# Altium schematic symbol library processor_sitara.SchLib: 3 symbols
Pins are listed as number, name and electrical type; pins without a type are passive.

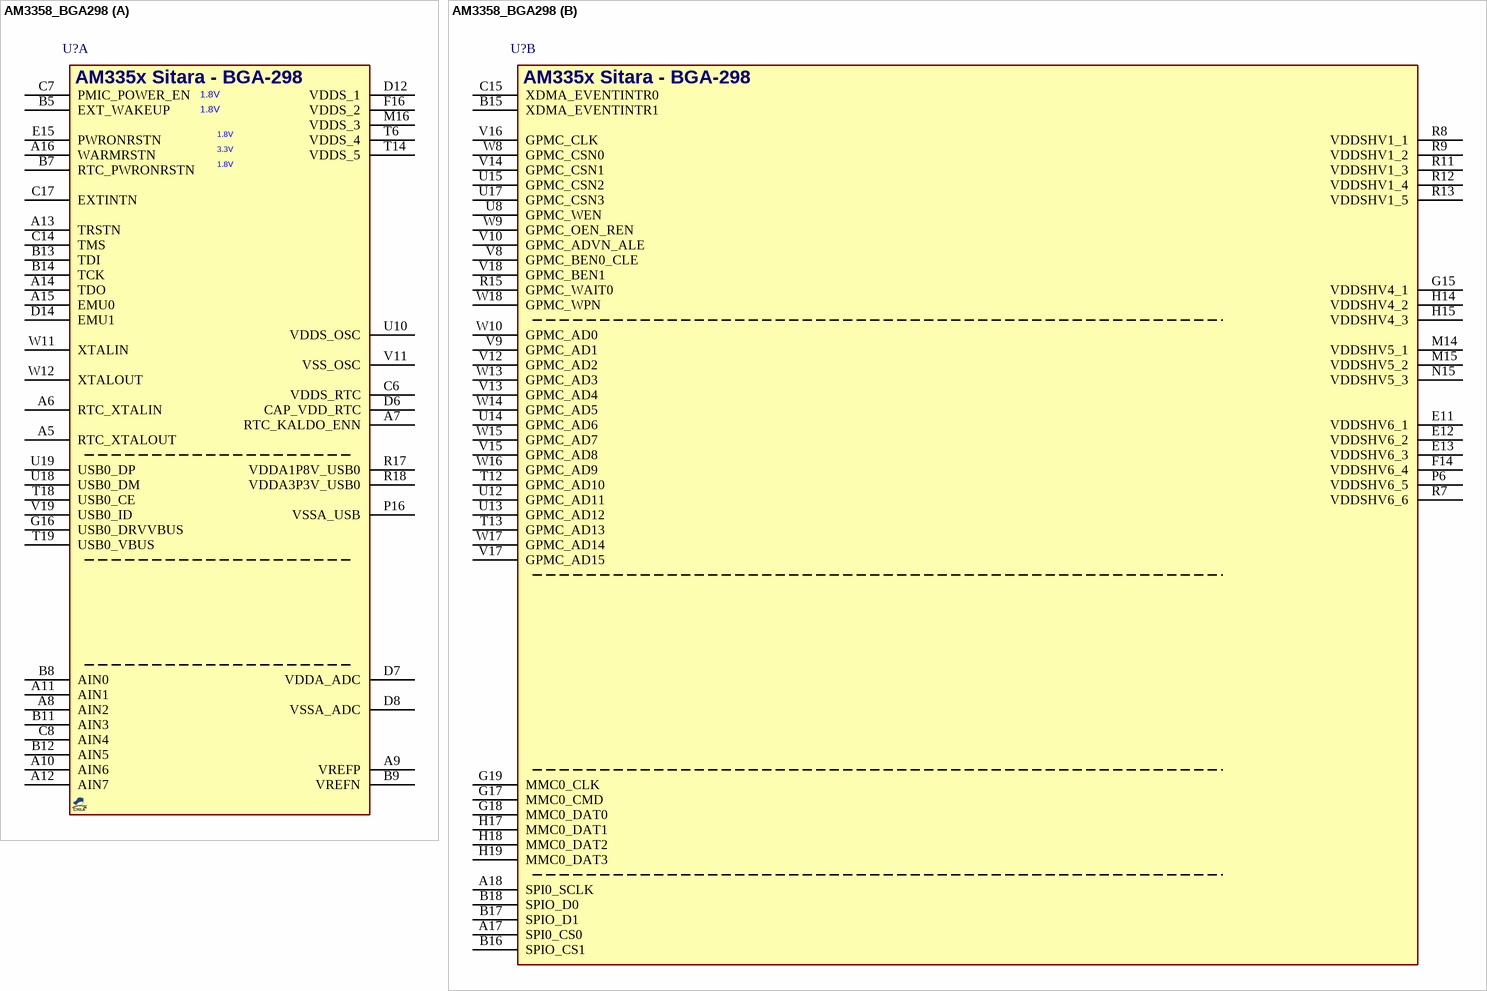
[diagram p0: symbol AM3358_BGA298]

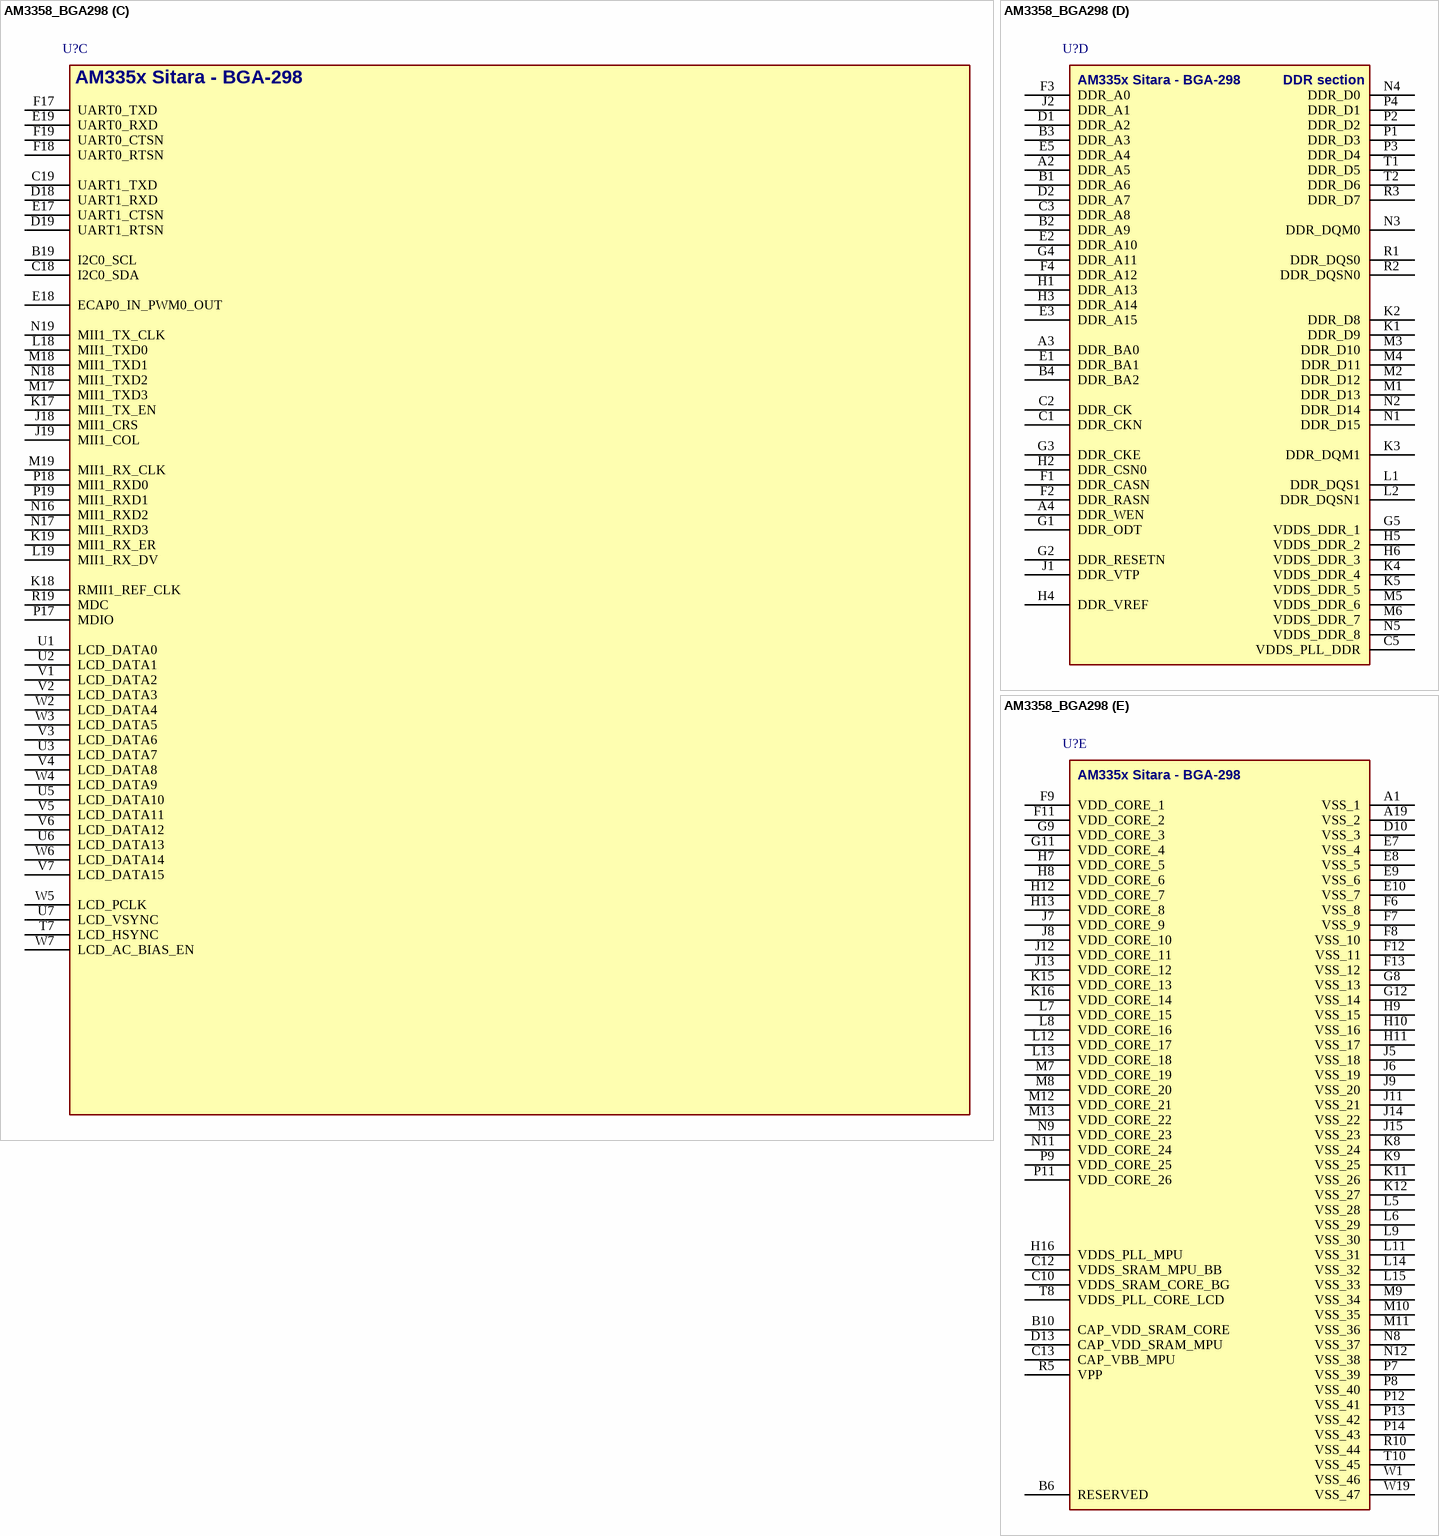
[diagram p1: symbol AM3358_BGA298]

## AM3358_BGA298
designator U?, comment AM3358  (value not drawn)
IC, Cortex A8 Processor, SITARA AM335x; MANF: Texas Instruments; MANF_P#: AM3358BZCE60; VALUE: AM3358
footprint BGA65_298_13X13 (BGA-298 ZCE, 0.65mm pitch, 13x13x1.3mm)
part A pins: A5 RTC_XTALOUT, A6 RTC_XTALIN, A7 RTC_KALDO_ENN, A8 AIN2, A9 VREFP, A10 AIN6, A11 AIN1, A12 AIN7, A13 TRSTN, A14 TDO, A15 EMU0, A16 WARMRSTN, B5 EXT_WAKEUP, B7 RTC_PWRONRSTN, B8 AIN0, B9 VREFN, B11 AIN3, B12 AIN5, B13 TDI, B14 TCK, C6 VDDS_RTC, C7 PMIC_POWER_EN, C8 AIN4, C14 TMS, C17 EXTINTN, D6 CAP_VDD_RTC, D7 VDDA_ADC, D8 VSSA_ADC, D12 VDDS_1, D14 EMU1, E15 PWRONRSTN, F16 VDDS_2, G16 USB0_DRVVBUS, M16 VDDS_3, P16 VSSA_USB, R17 VDDA1P8V_USB0, R18 VDDA3P3V_USB0, T6 VDDS_4, T14 VDDS_5, T18 USB0_CE, T19 USB0_VBUS, U10 VDDS_OSC, U18 USB0_DM, U19 USB0_DP, V11 VSS_OSC, V19 USB0_ID, W11 XTALIN, W12 XTALOUT
part B pins: A17 SPI0_CS0, A18 SPI0_SCLK, B15 XDMA_EVENTINTR1, B16 SPIO_CS1, B17 SPIO_D1, B18 SPIO_D0, C15 XDMA_EVENTINTR0, E11 VDDSHV6_1, E12 VDDSHV6_2, E13 VDDSHV6_3, F14 VDDSHV6_4, G15 VDDSHV4_1, G17 MMC0_CMD, G18 MMC0_DAT0, G19 MMC0_CLK, H14 VDDSHV4_2, H15 VDDSHV4_3, H17 MMC0_DAT1, H18 MMC0_DAT2, H19 MMC0_DAT3, M14 VDDSHV5_1, M15 VDDSHV5_2, N15 VDDSHV5_3, P6 VDDSHV6_5, R7 VDDSHV6_6, R8 VDDSHV1_1, R9 VDDSHV1_2, R11 VDDSHV1_3, R12 VDDSHV1_4, R13 VDDSHV1_5, R15 GPMC_WAIT0, T12 GPMC_AD10, T13 GPMC_AD13, U8 GPMC_WEN, U12 GPMC_AD11, U13 GPMC_AD12, U14 GPMC_AD6, U15 GPMC_CSN2, U17 GPMC_CSN3, V8 GPMC_BEN0_CLE, V9 GPMC_AD1, V10 GPMC_ADVN_ALE, V12 GPMC_AD2, V13 GPMC_AD4, V14 GPMC_CSN1, V15 GPMC_AD8, V16 GPMC_CLK, V17 GPMC_AD15, V18 GPMC_BEN1, W8 GPMC_CSN0, W9 GPMC_OEN_REN, W10 GPMC_AD0, W13 GPMC_AD3, W14 GPMC_AD5, W15 GPMC_AD7, W16 GPMC_AD9, W17 GPMC_AD14, W18 GPMC_WPN
part C pins: B19 I2C0_SCL, C18 I2C0_SDA, C19 UART1_TXD, D18 UART1_RXD, D19 UART1_RTSN, E17 UART1_CTSN, E18 ECAP0_IN_PWM0_OUT, E19 UART0_RXD, F17 UART0_TXD, F18 UART0_RTSN, F19 UART0_CTSN, J18 MII1_CRS, J19 MII1_COL, K17 MII1_TX_EN, K18 RMII1_REF_CLK, K19 MII1_RX_ER, L18 MII1_TXD0, L19 MII1_RX_DV, M17 MII1_TXD3, M18 MII1_TXD1, M19 MII1_RX_CLK, N16 MII1_RXD2, N17 MII1_RXD3, N18 MII1_TXD2, N19 MII1_TX_CLK, P17 MDIO, P18 MII1_RXD0, P19 MII1_RXD1, R19 MDC, T7 LCD_HSYNC, U1 LCD_DATA0, U2 LCD_DATA1, U3 LCD_DATA7, U5 LCD_DATA10, U6 LCD_DATA13, U7 LCD_VSYNC, V1 LCD_DATA2, V2 LCD_DATA3, V3 LCD_DATA6, V4 LCD_DATA8, V5 LCD_DATA11, V6 LCD_DATA12, V7 LCD_DATA15, W2 LCD_DATA4, W3 LCD_DATA5, W4 LCD_DATA9, W5 LCD_PCLK, W6 LCD_DATA14, W7 LCD_AC_BIAS_EN
part D pins: A2 DDR_A5, A3 DDR_BA0, A4 DDR_WEN, B1 DDR_A6, B2 DDR_A9, B3 DDR_A3, B4 DDR_BA2, C1 DDR_CKN, C2 DDR_CK, C3 DDR_A8, C5 VDDS_PLL_DDR, D1 DDR_A2, D2 DDR_A7, E1 DDR_BA1, E2 DDR_A10, E3 DDR_A15, E5 DDR_A4, F1 DDR_CASN, F2 DDR_RASN, F3 DDR_A0, F4 DDR_A12, G1 DDR_ODT, G2 DDR_RESETN, G3 DDR_CKE, G4 DDR_A11, G5 VDDS_DDR_1, H1 DDR_A13, H2 DDR_CSN0, H3 DDR_A14, H4 DDR_VREF, H5 VDDS_DDR_2, H6 VDDS_DDR_3, J1 DDR_VTP, J2 DDR_A1, K1 DDR_D9, K2 DDR_D8, K3 DDR_DQM1, K4 VDDS_DDR_4, K5 VDDS_DDR_5, L1 DDR_DQS1, L2 DDR_DQSN1, M1 DDR_D13, M2 DDR_D12, M3 DDR_D10, M4 DDR_D11, M5 VDDS_DDR_6, M6 VDDS_DDR_7, N1 DDR_D15, N2 DDR_D14, N3 DDR_DQM0, N4 DDR_D0, N5 VDDS_DDR_8, P1 DDR_D3, P2 DDR_D2, P3 DDR_D4, P4 DDR_D1, R1 DDR_DQS0, R2 DDR_DQSN0, R3 DDR_D7, T1 DDR_D5, T2 DDR_D6
part E pins: A1 VSS_1, A19 VSS_2, B6 RESERVED, B10 CAP_VDD_SRAM_CORE, C10 VDDS_SRAM_CORE_BG, C12 VDDS_SRAM_MPU_BB, C13 CAP_VBB_MPU, D10 VSS_3, D13 CAP_VDD_SRAM_MPU, E7 VSS_4, E8 VSS_5, E9 VSS_6, E10 VSS_7, F6 VSS_8, F7 VSS_9, F8 VSS_10, F9 VDD_CORE_1, F11 VDD_CORE_2, F12 VSS_11, F13 VSS_12, G8 VSS_13, G9 VDD_CORE_3, G11 VDD_CORE_4, G12 VSS_14, H7 VDD_CORE_5, H8 VDD_CORE_6, H9 VSS_15, H10 VSS_16, H11 VSS_17, H12 VDD_CORE_7, H13 VDD_CORE_8, H16 VDDS_PLL_MPU, J5 VSS_18, J6 VSS_19, J7 VDD_CORE_9, J8 VDD_CORE_10, J9 VSS_20, J11 VSS_21, J12 VDD_CORE_11, J13 VDD_CORE_12, J14 VSS_22, J15 VSS_23, K8 VSS_24, K9 VSS_25, K11 VSS_26, K12 VSS_27, K15 VDD_CORE_13, K16 VDD_CORE_14, L5 VSS_28, L6 VSS_29, L7 VDD_CORE_15, L8 VDD_CORE_16, L9 VSS_30, L11 VSS_31, L12 VDD_CORE_17, L13 VDD_CORE_18, L14 VSS_32, L15 VSS_33, M7 VDD_CORE_19, M8 VDD_CORE_20, M9 VSS_34, M10 VSS_35, M11 VSS_36, M12 VDD_CORE_21, M13 VDD_CORE_22, N8 VSS_37, N9 VDD_CORE_23, N11 VDD_CORE_24, N12 VSS_38, P7 VSS_39, P8 VSS_40, P9 VDD_CORE_25, P11 VDD_CORE_26, P12 VSS_41, P13 VSS_42, P14 VSS_43, R5 VPP, R10 VSS_44, T8 VDDS_PLL_CORE_LCD, T10 VSS_45, W1 VSS_46, W19 VSS_47
part A text: AM335x Sitara - BGA-298; 1.8V; 3.3V
part B text: AM335x Sitara - BGA-298
part C text: AM335x Sitara - BGA-298
part D text: AM335x Sitara - BGA-298; DDR section
part E text: AM335x Sitara - BGA-298

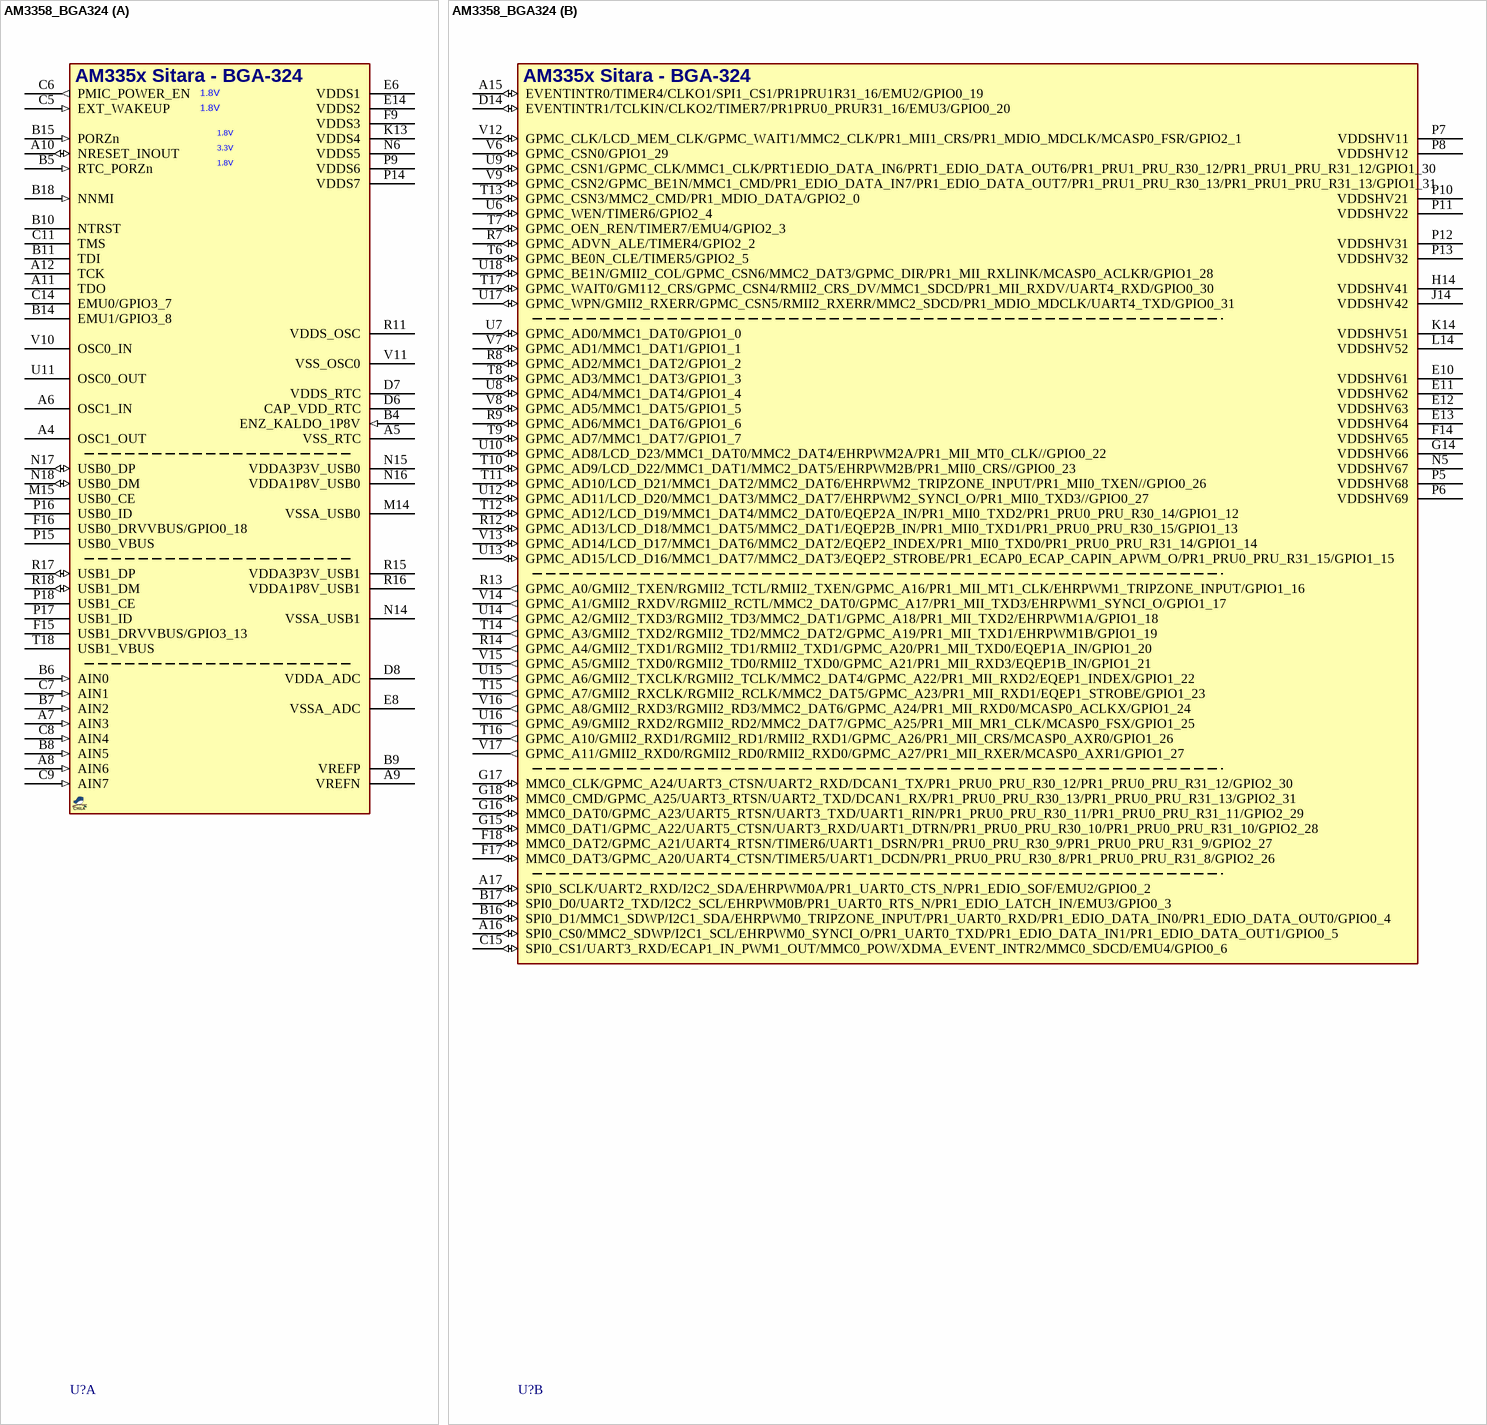
[diagram p2: symbol AM3358_BGA324]

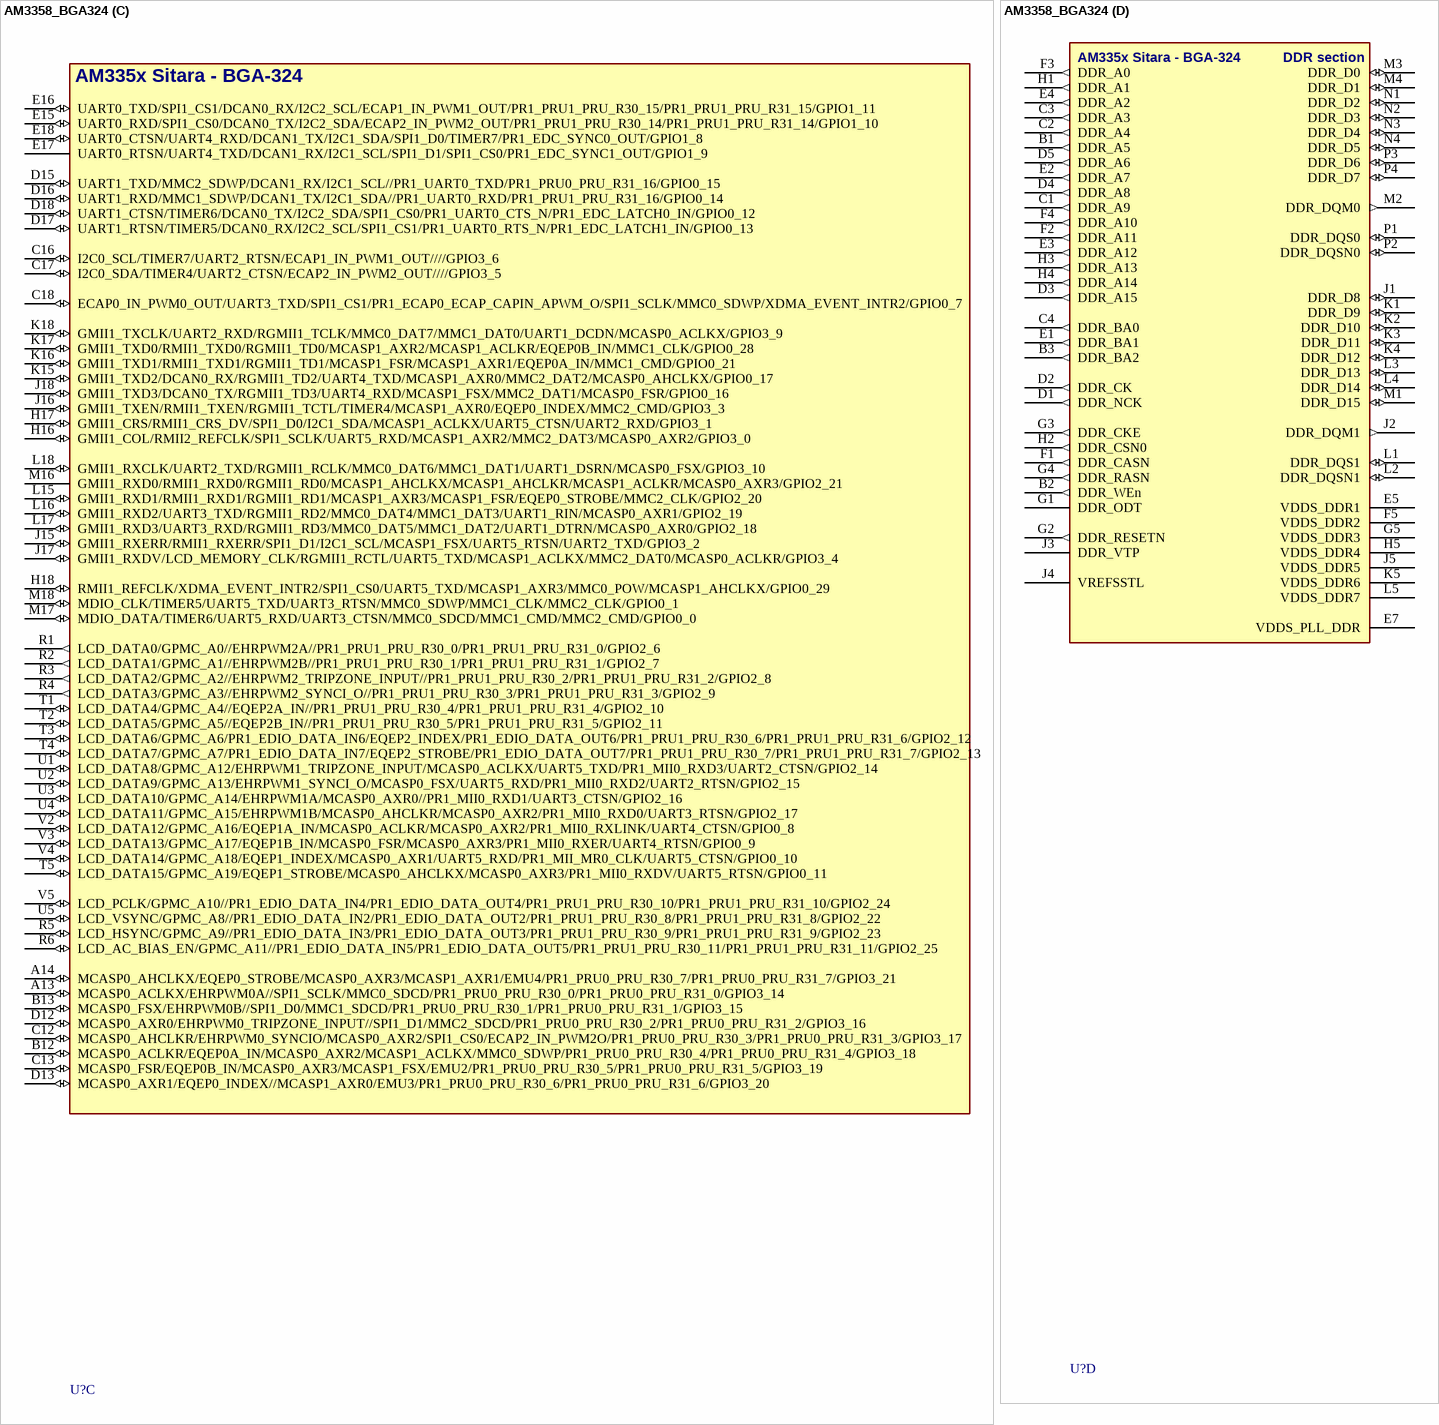
[diagram p3: symbol AM3358_BGA324]

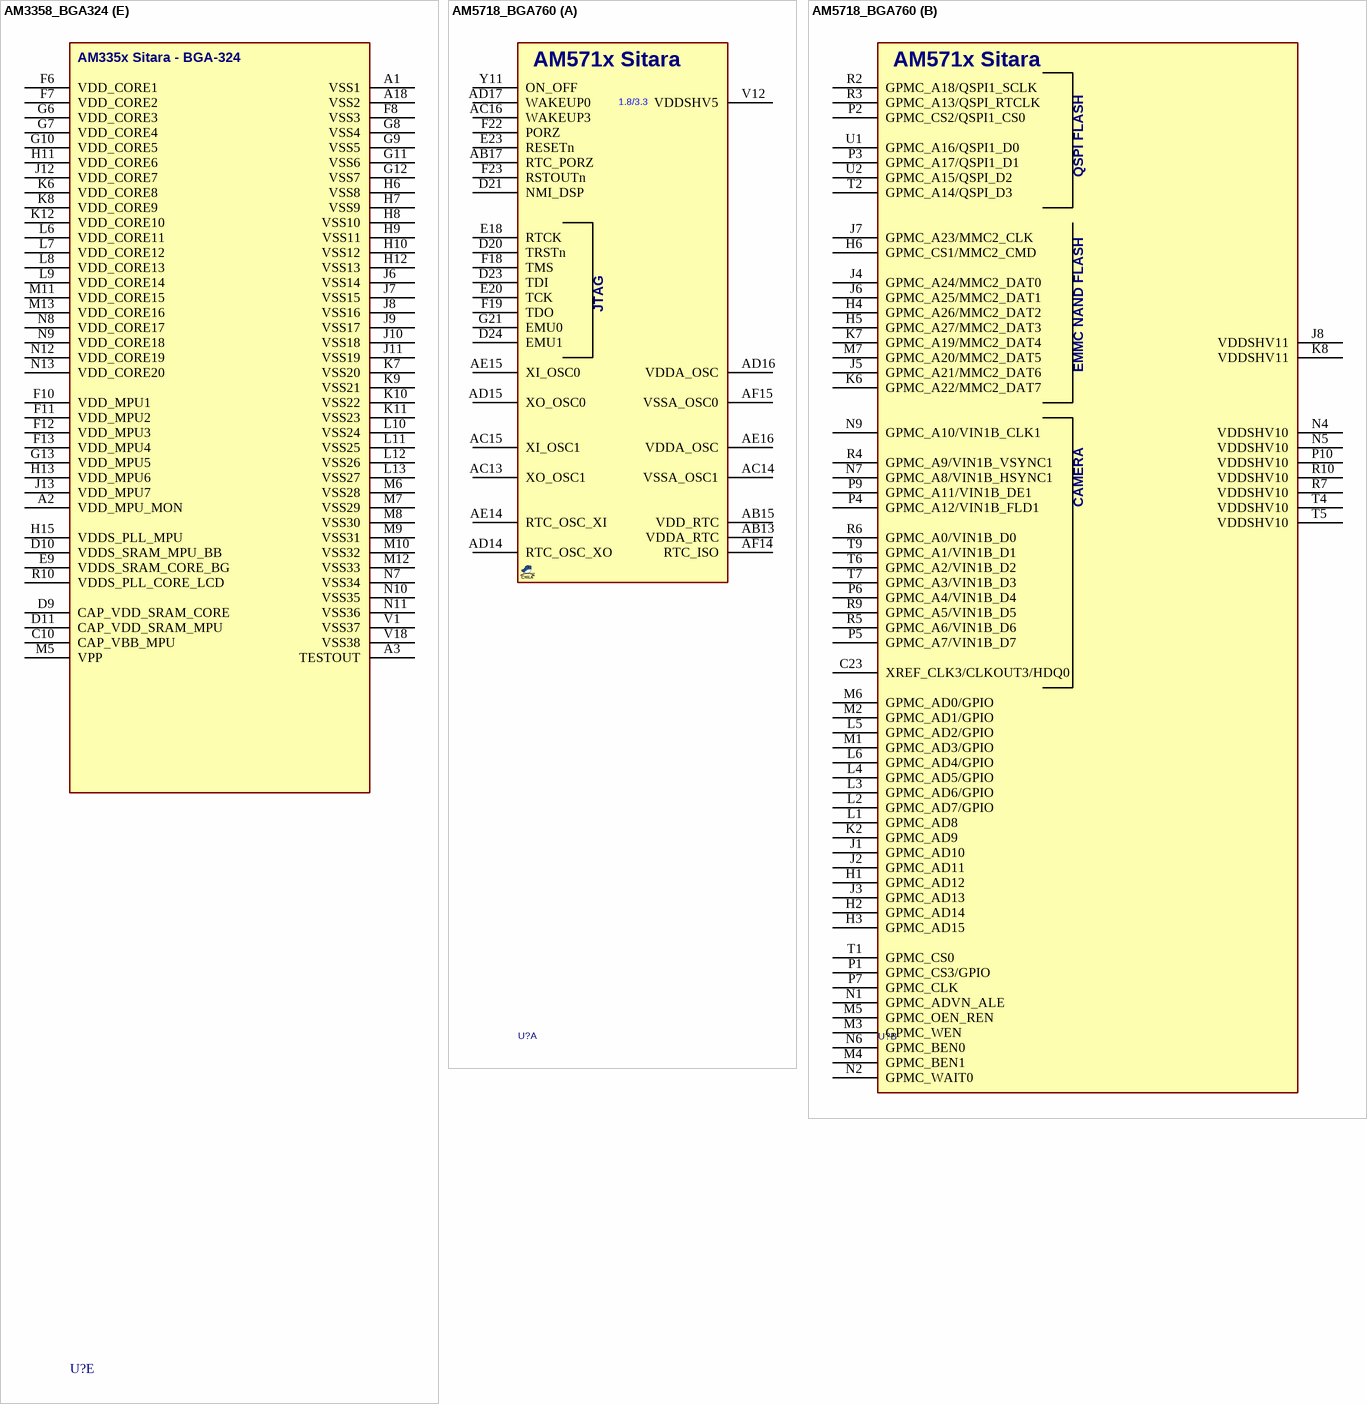
[diagram p4: symbols AM3358_BGA324 to AM5718_BGA760]

## AM3358_BGA324
designator U?, comment AM3358  (value not drawn)
IC, Cortex A8 Processor, SITARA AM335x FBGA ZCZ; MANF: Texas Instruments; MANF_P#: AM3358BZCZA100; PARAM: 1GHz; PRICE: 20$; VALUE: AM3358
footprint BGA80_324_S15 (BGA, 324-Leads, CSG324, Body 15x15mm, Pitch 0.8mm, AM33XX)
part A pins: A4 OSC1_OUT, A5 VSS_RTC (power), A6 OSC1_IN, A7 AIN3 (in), A8 AIN6 (in), A9 VREFN, A10 NRESET_INOUT (io), A11 TDO, A12 TCK, B4 ENZ_KALDO_1P8V (in), B5 RTC_PORZn (in), B6 AIN0 (in), B7 AIN2 (in), B8 AIN5 (in), B9 VREFP, B10 NTRST, B11 TDI, B14 EMU1/GPIO3_8, B15 PORZn (in), B18 NNMI (in), C5 EXT_WAKEUP (in), C6 PMIC_POWER_EN (out), C7 AIN1 (in), C8 AIN4 (in), C9 AIN7 (in), C11 TMS, C14 EMU0/GPIO3_7, D6 CAP_VDD_RTC (power), D7 VDDS_RTC (power), D8 VDDA_ADC (power), E6 VDDS1 (power), E8 VSSA_ADC (power), E14 VDDS2 (power), F9 VDDS3 (power), F15 USB1_DRVVBUS/GPIO3_13, F16 USB0_DRVVBUS/GPIO0_18, K13 VDDS4 (power), M14 VSSA_USB0 (power), M15 USB0_CE, N6 VDDS5 (power), N14 VSSA_USB1 (power), N15 VDDA3P3V_USB0 (power), N16 VDDA1P8V_USB0 (power), N17 USB0_DP (io), N18 USB0_DM (io), P9 VDDS6 (power), P14 VDDS7 (power), P15 USB0_VBUS, P16 USB0_ID, P17 USB1_ID, P18 USB1_CE, R11 VDDS_OSC (power), R15 VDDA3P3V_USB1 (power), R16 VDDA1P8V_USB1 (power), R17 USB1_DP (io), R18 USB1_DM (io), T18 USB1_VBUS, U11 OSC0_OUT, V10 OSC0_IN, V11 VSS_OSC0 (power)
part B pins: A15 EVENTINTR0/TIMER4/CLKO1/SPI1_CS1/PR1PRU1R31_16/EMU2/GPIO0_19 (io), A16 SPI0_CS0/MMC2_SDWP/I2C1_SCL/EHRPWM0_SYNCI_O/PR1_UART0_TXD/PR1_EDIO_DATA_IN1/PR1_EDIO_DATA_OUT1/GPIO0_5 (io), A17 SPI0_SCLK/UART2_RXD/I2C2_SDA/EHRPWM0A/PR1_UART0_CTS_N/PR1_EDIO_SOF/EMU2/GPIO0_2 (io), B16 SPI0_D1/MMC1_SDWP/I2C1_SDA/EHRPWM0_TRIPZONE_INPUT/PR1_UART0_RXD/PR1_EDIO_DATA_IN0/PR1_EDIO_DATA_OUT0/GPIO0_4 (io), B17 SPI0_D0/UART2_TXD/I2C2_SCL/EHRPWM0B/PR1_UART0_RTS_N/PR1_EDIO_LATCH_IN/EMU3/GPIO0_3 (io), C15 SPI0_CS1/UART3_RXD/ECAP1_IN_PWM1_OUT/MMC0_POW/XDMA_EVENT_INTR2/MMC0_SDCD/EMU4/GPIO0_6 (io), D14 EVENTINTR1/TCLKIN/CLKO2/TIMER7/PR1PRU0_PRUR31_16/EMU3/GPIO0_20 (io), E10 VDDSHV61 (power), E11 VDDSHV62 (power), E12 VDDSHV63 (power), E13 VDDSHV64 (power), F14 VDDSHV65 (power), F17 MMC0_DAT3/GPMC_A20/UART4_CTSN/TIMER5/UART1_DCDN/PR1_PRU0_PRU_R30_8/PR1_PRU0_PRU_R31_8/GPIO2_26 (io), F18 MMC0_DAT2/GPMC_A21/UART4_RTSN/TIMER6/UART1_DSRN/PR1_PRU0_PRU_R30_9/PR1_PRU0_PRU_R31_9/GPIO2_27 (io), G14 VDDSHV66 (power), G15 MMC0_DAT1/GPMC_A22/UART5_CTSN/UART3_RXD/UART1_DTRN/PR1_PRU0_PRU_R30_10/PR1_PRU0_PRU_R31_10/GPIO2_28 (io), G16 MMC0_DAT0/GPMC_A23/UART5_RTSN/UART3_TXD/UART1_RIN/PR1_PRU0_PRU_R30_11/PR1_PRU0_PRU_R31_11/GPIO2_29 (io), G17 MMC0_CLK/GPMC_A24/UART3_CTSN/UART2_RXD/DCAN1_TX/PR1_PRU0_PRU_R30_12/PR1_PRU0_PRU_R31_12/GPIO2_30 (io), G18 MMC0_CMD/GPMC_A25/UART3_RTSN/UART2_TXD/DCAN1_RX/PR1_PRU0_PRU_R30_13/PR1_PRU0_PRU_R31_13/GPIO2_31 (io), H14 VDDSHV41 (power), J14 VDDSHV42 (power), K14 VDDSHV51 (power), L14 VDDSHV52 (power), N5 VDDSHV67 (power), P5 VDDSHV68 (power), P6 VDDSHV69 (power), P7 VDDSHV11 (power), P8 VDDSHV12 (power), P10 VDDSHV21 (power), P11 VDDSHV22 (power), P12 VDDSHV31 (power), P13 VDDSHV32 (power), R7 GPMC_ADVN_ALE/TIMER4/GPIO2_2 (io), R8 GPMC_AD2/MMC1_DAT2/GPIO1_2 (io), R9 GPMC_AD6/MMC1_DAT6/GPIO1_6 (io), R12 GPMC_AD13/LCD_D18/MMC1_DAT5/MMC2_DAT1/EQEP2B_IN/PR1_MII0_TXD1/PR1_PRU0_PRU_R30_15/GPIO1_13 (io), R13 GPMC_A0/GMII2_TXEN/RGMII2_TCTL/RMII2_TXEN/GPMC_A16/PR1_MII_MT1_CLK/EHRPWM1_TRIPZONE_INPUT/GPIO1_16 (out), R14 GPMC_A4/GMII2_TXD1/RGMII2_TD1/RMII2_TXD1/GPMC_A20/PR1_MII_TXD0/EQEP1A_IN/GPIO1_20 (out), T6 GPMC_BE0N_CLE/TIMER5/GPIO2_5 (io), T7 GPMC_OEN_REN/TIMER7/EMU4/GPIO2_3 (io), T8 GPMC_AD3/MMC1_DAT3/GPIO1_3 (io), T9 GPMC_AD7/MMC1_DAT7/GPIO1_7 (io), T10 GPMC_AD9/LCD_D22/MMC1_DAT1/MMC2_DAT5/EHRPWM2B/PR1_MII0_CRS//GPIO0_23 (io), T11 GPMC_AD10/LCD_D21/MMC1_DAT2/MMC2_DAT6/EHRPWM2_TRIPZONE_INPUT/PR1_MII0_TXEN//GPIO0_26 (io), T12 GPMC_AD12/LCD_D19/MMC1_DAT4/MMC2_DAT0/EQEP2A_IN/PR1_MII0_TXD2/PR1_PRU0_PRU_R30_14/GPIO1_12 (io), T13 GPMC_CSN3/MMC2_CMD/PR1_MDIO_DATA/GPIO2_0 (io), T14 GPMC_A3/GMII2_TXD2/RGMII2_TD2/MMC2_DAT2/GPMC_A19/PR1_MII_TXD1/EHRPWM1B/GPIO1_19 (out), T15 GPMC_A7/GMII2_RXCLK/RGMII2_RCLK/MMC2_DAT5/GPMC_A23/PR1_MII_RXD1/EQEP1_STROBE/GPIO1_23 (out), T16 GPMC_A10/GMII2_RXD1/RGMII2_RD1/RMII2_RXD1/GPMC_A26/PR1_MII_CRS/MCASP0_AXR0/GPIO1_26 (out), T17 GPMC_WAIT0/GM112_CRS/GPMC_CSN4/RMII2_CRS_DV/MMC1_SDCD/PR1_MII_RXDV/UART4_RXD/GPIO0_30 (io), U6 GPMC_WEN/TIMER6/GPIO2_4 (io), U7 GPMC_AD0/MMC1_DAT0/GPIO1_0 (io), U8 GPMC_AD4/MMC1_DAT4/GPIO1_4 (io), U9 GPMC_CSN1/GPMC_CLK/MMC1_CLK/PRT1EDIO_DATA_IN6/PRT1_EDIO_DATA_OUT6/PR1_PRU1_PRU_R30_12/PR1_PRU1_PRU_R31_12/GPIO1_30 (io), U10 GPMC_AD8/LCD_D23/MMC1_DAT0/MMC2_DAT4/EHRPWM2A/PR1_MII_MT0_CLK//GPIO0_22 (io), U12 GPMC_AD11/LCD_D20/MMC1_DAT3/MMC2_DAT7/EHRPWM2_SYNCI_O/PR1_MII0_TXD3//GPIO0_27 (io), U13 GPMC_AD15/LCD_D16/MMC1_DAT7/MMC2_DAT3/EQEP2_STROBE/PR1_ECAP0_ECAP_CAPIN_APWM_O/PR1_PRU0_PRU_R31_15/GPIO1_15 (io), U14 GPMC_A2/GMII2_TXD3/RGMII2_TD3/MMC2_DAT1/GPMC_A18/PR1_MII_TXD2/EHRPWM1A/GPIO1_18 (out), U15 GPMC_A6/GMII2_TXCLK/RGMII2_TCLK/MMC2_DAT4/GPMC_A22/PR1_MII_RXD2/EQEP1_INDEX/GPIO1_22 (out), U16 GPMC_A9/GMII2_RXD2/RGMII2_RD2/MMC2_DAT7/GPMC_A25/PR1_MII_MR1_CLK/MCASP0_FSX/GPIO1_25 (out), U17 GPMC_WPN/GMII2_RXERR/GPMC_CSN5/RMII2_RXERR/MMC2_SDCD/PR1_MDIO_MDCLK/UART4_TXD/GPIO0_31 (io), U18 GPMC_BE1N/GMII2_COL/GPMC_CSN6/MMC2_DAT3/GPMC_DIR/PR1_MII_RXLINK/MCASP0_ACLKR/GPIO1_28 (io), V6 GPMC_CSN0/GPIO1_29 (io), V7 GPMC_AD1/MMC1_DAT1/GPIO1_1 (io), V8 GPMC_AD5/MMC1_DAT5/GPIO1_5 (io), V9 GPMC_CSN2/GPMC_BE1N/MMC1_CMD/PR1_EDIO_DATA_IN7/PR1_EDIO_DATA_OUT7/PR1_PRU1_PRU_R30_13/PR1_PRU1_PRU_R31_13/GPIO1_31 (io), V12 GPMC_CLK/LCD_MEM_CLK/GPMC_WAIT1/MMC2_CLK/PR1_MII1_CRS/PR1_MDIO_MDCLK/MCASP0_FSR/GPIO2_1 (io), V13 GPMC_AD14/LCD_D17/MMC1_DAT6/MMC2_DAT2/EQEP2_INDEX/PR1_MII0_TXD0/PR1_PRU0_PRU_R31_14/GPIO1_14 (io), V14 GPMC_A1/GMII2_RXDV/RGMII2_RCTL/MMC2_DAT0/GPMC_A17/PR1_MII_TXD3/EHRPWM1_SYNCI_O/GPIO1_17 (out), V15 GPMC_A5/GMII2_TXD0/RGMII2_TD0/RMII2_TXD0/GPMC_A21/PR1_MII_RXD3/EQEP1B_IN/GPIO1_21 (out), V16 GPMC_A8/GMII2_RXD3/RGMII2_RD3/MMC2_DAT6/GPMC_A24/PR1_MII_RXD0/MCASP0_ACLKX/GPIO1_24 (out), V17 GPMC_A11/GMII2_RXD0/RGMII2_RD0/RMII2_RXD0/GPMC_A27/PR1_MII_RXER/MCASP0_AXR1/GPIO1_27 (out)
part C pins: A13 MCASP0_ACLKX/EHRPWM0A//SPI1_SCLK/MMC0_SDCD/PR1_PRU0_PRU_R30_0/PR1_PRU0_PRU_R31_0/GPIO3_14 (io), A14 MCASP0_AHCLKX/EQEP0_STROBE/MCASP0_AXR3/MCASP1_AXR1/EMU4/PR1_PRU0_PRU_R30_7/PR1_PRU0_PRU_R31_7/GPIO3_21 (io), B12 MCASP0_ACLKR/EQEP0A_IN/MCASP0_AXR2/MCASP1_ACLKX/MMC0_SDWP/PR1_PRU0_PRU_R30_4/PR1_PRU0_PRU_R31_4/GPIO3_18 (io), B13 MCASP0_FSX/EHRPWM0B//SPI1_D0/MMC1_SDCD/PR1_PRU0_PRU_R30_1/PR1_PRU0_PRU_R31_1/GPIO3_15 (io), C12 MCASP0_AHCLKR/EHRPWM0_SYNCIO/MCASP0_AXR2/SPI1_CS0/ECAP2_IN_PWM2O/PR1_PRU0_PRU_R30_3/PR1_PRU0_PRU_R31_3/GPIO3_17 (io), C13 MCASP0_FSR/EQEP0B_IN/MCASP0_AXR3/MCASP1_FSX/EMU2/PR1_PRU0_PRU_R30_5/PR1_PRU0_PRU_R31_5/GPIO3_19 (io), C16 I2C0_SCL/TIMER7/UART2_RTSN/ECAP1_IN_PWM1_OUT////GPIO3_6 (io), C17 I2C0_SDA/TIMER4/UART2_CTSN/ECAP2_IN_PWM2_OUT////GPIO3_5 (io), C18 ECAP0_IN_PWM0_OUT/UART3_TXD/SPI1_CS1/PR1_ECAP0_ECAP_CAPIN_APWM_O/SPI1_SCLK/MMC0_SDWP/XDMA_EVENT_INTR2/GPIO0_7 (io), D12 MCASP0_AXR0/EHRPWM0_TRIPZONE_INPUT//SPI1_D1/MMC2_SDCD/PR1_PRU0_PRU_R30_2/PR1_PRU0_PRU_R31_2/GPIO3_16 (io), D13 MCASP0_AXR1/EQEP0_INDEX//MCASP1_AXR0/EMU3/PR1_PRU0_PRU_R30_6/PR1_PRU0_PRU_R31_6/GPIO3_20 (io), D15 UART1_TXD/MMC2_SDWP/DCAN1_RX/I2C1_SCL//PR1_UART0_TXD/PR1_PRU0_PRU_R31_16/GPIO0_15 (io), D16 UART1_RXD/MMC1_SDWP/DCAN1_TX/I2C1_SDA//PR1_UART0_RXD/PR1_PRU1_PRU_R31_16/GPIO0_14 (io), D17 UART1_RTSN/TIMER5/DCAN0_RX/I2C2_SCL/SPI1_CS1/PR1_UART0_RTS_N/PR1_EDC_LATCH1_IN/GPIO0_13 (io), D18 UART1_CTSN/TIMER6/DCAN0_TX/I2C2_SDA/SPI1_CS0/PR1_UART0_CTS_N/PR1_EDC_LATCH0_IN/GPIO0_12 (io), E15 UART0_RXD/SPI1_CS0/DCAN0_TX/I2C2_SDA/ECAP2_IN_PWM2_OUT/PR1_PRU1_PRU_R30_14/PR1_PRU1_PRU_R31_14/GPIO1_10 (io), E16 UART0_TXD/SPI1_CS1/DCAN0_RX/I2C2_SCL/ECAP1_IN_PWM1_OUT/PR1_PRU1_PRU_R30_15/PR1_PRU1_PRU_R31_15/GPIO1_11 (io), E17 UART0_RTSN/UART4_TXD/DCAN1_RX/I2C1_SCL/SPI1_D1/SPI1_CS0/PR1_EDC_SYNC1_OUT/GPIO1_9, E18 UART0_CTSN/UART4_RXD/DCAN1_TX/I2C1_SDA/SPI1_D0/TIMER7/PR1_EDC_SYNC0_OUT/GPIO1_8 (io), H16 GMII1_COL/RMII2_REFCLK/SPI1_SCLK/UART5_RXD/MCASP1_AXR2/MMC2_DAT3/MCASP0_AXR2/GPIO3_0 (io), H17 GMII1_CRS/RMII1_CRS_DV/SPI1_D0/I2C1_SDA/MCASP1_ACLKX/UART5_CTSN/UART2_RXD/GPIO3_1 (io), H18 RMII1_REFCLK/XDMA_EVENT_INTR2/SPI1_CS0/UART5_TXD/MCASP1_AXR3/MMC0_POW/MCASP1_AHCLKX/GPIO0_29 (io), J15 GMII1_RXERR/RMII1_RXERR/SPI1_D1/I2C1_SCL/MCASP1_FSX/UART5_RTSN/UART2_TXD/GPIO3_2 (io), J16 GMII1_TXEN/RMII1_TXEN/RGMII1_TCTL/TIMER4/MCASP1_AXR0/EQEP0_INDEX/MMC2_CMD/GPIO3_3 (io), J17 GMII1_RXDV/LCD_MEMORY_CLK/RGMII1_RCTL/UART5_TXD/MCASP1_ACLKX/MMC2_DAT0/MCASP0_ACLKR/GPIO3_4 (io), J18 GMII1_TXD3/DCAN0_TX/RGMII1_TD3/UART4_RXD/MCASP1_FSX/MMC2_DAT1/MCASP0_FSR/GPIO0_16 (io), K15 GMII1_TXD2/DCAN0_RX/RGMII1_TD2/UART4_TXD/MCASP1_AXR0/MMC2_DAT2/MCASP0_AHCLKX/GPIO0_17 (io), K16 GMII1_TXD1/RMII1_TXD1/RGMII1_TD1/MCASP1_FSR/MCASP1_AXR1/EQEP0A_IN/MMC1_CMD/GPIO0_21 (io), K17 GMII1_TXD0/RMII1_TXD0/RGMII1_TD0/MCASP1_AXR2/MCASP1_ACLKR/EQEP0B_IN/MMC1_CLK/GPIO0_28 (io), K18 GMII1_TXCLK/UART2_RXD/RGMII1_TCLK/MMC0_DAT7/MMC1_DAT0/UART1_DCDN/MCASP0_ACLKX/GPIO3_9 (io), L15 GMII1_RXD1/RMII1_RXD1/RGMII1_RD1/MCASP1_AXR3/MCASP1_FSR/EQEP0_STROBE/MMC2_CLK/GPIO2_20 (io), L16 GMII1_RXD2/UART3_TXD/RGMII1_RD2/MMC0_DAT4/MMC1_DAT3/UART1_RIN/MCASP0_AXR1/GPIO2_19 (io), L17 GMII1_RXD3/UART3_RXD/RGMII1_RD3/MMC0_DAT5/MMC1_DAT2/UART1_DTRN/MCASP0_AXR0/GPIO2_18 (io), L18 GMII1_RXCLK/UART2_TXD/RGMII1_RCLK/MMC0_DAT6/MMC1_DAT1/UART1_DSRN/MCASP0_FSX/GPIO3_10 (io), M16 GMII1_RXD0/RMII1_RXD0/RGMII1_RD0/MCASP1_AHCLKX/MCASP1_AHCLKR/MCASP1_ACLKR/MCASP0_AXR3/GPIO2_21, M17 MDIO_DATA/TIMER6/UART5_RXD/UART3_CTSN/MMC0_SDCD/MMC1_CMD/MMC2_CMD/GPIO0_0 (io), M18 MDIO_CLK/TIMER5/UART5_TXD/UART3_RTSN/MMC0_SDWP/MMC1_CLK/MMC2_CLK/GPIO0_1 (io), R1 LCD_DATA0/GPMC_A0//EHRPWM2A//PR1_PRU1_PRU_R30_0/PR1_PRU1_PRU_R31_0/GPIO2_6 (out), R2 LCD_DATA1/GPMC_A1//EHRPWM2B//PR1_PRU1_PRU_R30_1/PR1_PRU1_PRU_R31_1/GPIO2_7 (out), R3 LCD_DATA2/GPMC_A2//EHRPWM2_TRIPZONE_INPUT//PR1_PRU1_PRU_R30_2/PR1_PRU1_PRU_R31_2/GPIO2_8 (out), R4 LCD_DATA3/GPMC_A3//EHRPWM2_SYNCI_O//PR1_PRU1_PRU_R30_3/PR1_PRU1_PRU_R31_3/GPIO2_9 (out), R5 LCD_HSYNC/GPMC_A9//PR1_EDIO_DATA_IN3/PR1_EDIO_DATA_OUT3/PR1_PRU1_PRU_R30_9/PR1_PRU1_PRU_R31_9/GPIO2_23 (io), R6 LCD_AC_BIAS_EN/GPMC_A11//PR1_EDIO_DATA_IN5/PR1_EDIO_DATA_OUT5/PR1_PRU1_PRU_R30_11/PR1_PRU1_PRU_R31_11/GPIO2_25 (io), T1 LCD_DATA4/GPMC_A4//EQEP2A_IN//PR1_PRU1_PRU_R30_4/PR1_PRU1_PRU_R31_4/GPIO2_10 (io), T2 LCD_DATA5/GPMC_A5//EQEP2B_IN//PR1_PRU1_PRU_R30_5/PR1_PRU1_PRU_R31_5/GPIO2_11 (io), T3 LCD_DATA6/GPMC_A6/PR1_EDIO_DATA_IN6/EQEP2_INDEX/PR1_EDIO_DATA_OUT6/PR1_PRU1_PRU_R30_6/PR1_PRU1_PRU_R31_6/GPIO2_12 (io), T4 LCD_DATA7/GPMC_A7/PR1_EDIO_DATA_IN7/EQEP2_STROBE/PR1_EDIO_DATA_OUT7/PR1_PRU1_PRU_R30_7/PR1_PRU1_PRU_R31_7/GPIO2_13 (io), T5 LCD_DATA15/GPMC_A19/EQEP1_STROBE/MCASP0_AHCLKX/MCASP0_AXR3/PR1_MII0_RXDV/UART5_RTSN/GPIO0_11 (io), U1 LCD_DATA8/GPMC_A12/EHRPWM1_TRIPZONE_INPUT/MCASP0_ACLKX/UART5_TXD/PR1_MII0_RXD3/UART2_CTSN/GPIO2_14 (io), U2 LCD_DATA9/GPMC_A13/EHRPWM1_SYNCI_O/MCASP0_FSX/UART5_RXD/PR1_MII0_RXD2/UART2_RTSN/GPIO2_15 (io), U3 LCD_DATA10/GPMC_A14/EHRPWM1A/MCASP0_AXR0//PR1_MII0_RXD1/UART3_CTSN/GPIO2_16 (io), U4 LCD_DATA11/GPMC_A15/EHRPWM1B/MCASP0_AHCLKR/MCASP0_AXR2/PR1_MII0_RXD0/UART3_RTSN/GPIO2_17 (io), U5 LCD_VSYNC/GPMC_A8//PR1_EDIO_DATA_IN2/PR1_EDIO_DATA_OUT2/PR1_PRU1_PRU_R30_8/PR1_PRU1_PRU_R31_8/GPIO2_22 (io), V2 LCD_DATA12/GPMC_A16/EQEP1A_IN/MCASP0_ACLKR/MCASP0_AXR2/PR1_MII0_RXLINK/UART4_CTSN/GPIO0_8 (io), V3 LCD_DATA13/GPMC_A17/EQEP1B_IN/MCASP0_FSR/MCASP0_AXR3/PR1_MII0_RXER/UART4_RTSN/GPIO0_9 (io), V4 LCD_DATA14/GPMC_A18/EQEP1_INDEX/MCASP0_AXR1/UART5_RXD/PR1_MII_MR0_CLK/UART5_CTSN/GPIO0_10 (io), V5 LCD_PCLK/GPMC_A10//PR1_EDIO_DATA_IN4/PR1_EDIO_DATA_OUT4/PR1_PRU1_PRU_R30_10/PR1_PRU1_PRU_R31_10/GPIO2_24 (io)
part D pins: B1 DDR_A5 (out), B2 DDR_WEn (out), B3 DDR_BA2 (out), C1 DDR_A9 (out), C2 DDR_A4 (out), C3 DDR_A3 (out), C4 DDR_BA0 (out), D1 DDR_NCK (out), D2 DDR_CK (out), D3 DDR_A15 (out), D4 DDR_A8 (out), D5 DDR_A6 (out), E1 DDR_BA1 (out), E2 DDR_A7 (out), E3 DDR_A12 (out), E4 DDR_A2 (out), E5 VDDS_DDR1 (power), E7 VDDS_PLL_DDR (power), F1 DDR_CASN (out), F2 DDR_A11 (out), F3 DDR_A0 (out), F4 DDR_A10 (out), F5 VDDS_DDR2 (power), G1 DDR_ODT, G2 DDR_RESETN (out), G3 DDR_CKE (out), G4 DDR_RASN (out), G5 VDDS_DDR3 (power), H1 DDR_A1 (out), H2 DDR_CSN0 (out), H3 DDR_A13 (out), H4 DDR_A14 (out), H5 VDDS_DDR4 (power), J1 DDR_D8 (io), J2 DDR_DQM1 (out), J3 DDR_VTP, J4 VREFSSTL, J5 VDDS_DDR5 (power), K1 DDR_D9 (io), K2 DDR_D10 (io), K3 DDR_D11 (io), K4 DDR_D12 (io), K5 VDDS_DDR6 (power), L1 DDR_DQS1 (io), L2 DDR_DQSN1 (io), L3 DDR_D13 (io), L4 DDR_D14 (io), L5 VDDS_DDR7 (power), M1 DDR_D15 (io), M2 DDR_DQM0 (out), M3 DDR_D0 (io), M4 DDR_D1 (io), N1 DDR_D2 (io), N2 DDR_D3 (io), N3 DDR_D4 (io), N4 DDR_D5 (io), P1 DDR_DQS0 (io), P2 DDR_DQSN0 (io), P3 DDR_D6 (io), P4 DDR_D7 (io)
part E pins: A1 VSS1 (power), A2 VDD_MPU_MON, A3 TESTOUT, A18 VSS2 (power), C10 CAP_VBB_MPU, D9 CAP_VDD_SRAM_CORE (power), D10 VDDS_SRAM_MPU_BB (power), D11 CAP_VDD_SRAM_MPU (power), E9 VDDS_SRAM_CORE_BG (power), F6 VDD_CORE1 (power), F7 VDD_CORE2 (power), F8 VSS3 (power), F10 VDD_MPU1 (power), F11 VDD_MPU2 (power), F12 VDD_MPU3 (power), F13 VDD_MPU4 (power), G6 VDD_CORE3 (power), G7 VDD_CORE4 (power), G8 VSS4 (power), G9 VSS5 (power), G10 VDD_CORE5 (power), G11 VSS6 (power), G12 VSS7 (power), G13 VDD_MPU5 (power), H6 VSS8 (power), H7 VSS9 (power), H8 VSS10 (power), H9 VSS11 (power), H10 VSS12 (power), H11 VDD_CORE6 (power), H12 VSS13 (power), H13 VDD_MPU6 (power), H15 VDDS_PLL_MPU (power), J6 VSS14 (power), J7 VSS15 (power), J8 VSS16 (power), J9 VSS17 (power), J10 VSS18 (power), J11 VSS19 (power), J12 VDD_CORE7 (power), J13 VDD_MPU7 (power), K6 VDD_CORE8 (power), K7 VSS20 (power), K8 VDD_CORE9 (power), K9 VSS21 (power), K10 VSS22 (power), K11 VSS23 (power), K12 VDD_CORE10 (power), L6 VDD_CORE11 (power), L7 VDD_CORE12 (power), L8 VDD_CORE13 (power), L9 VDD_CORE14 (power), L10 VSS24 (power), L11 VSS25 (power), L12 VSS26 (power), L13 VSS27 (power), M5 VPP, M6 VSS28 (power), M7 VSS29 (power), M8 VSS30 (power), M9 VSS31 (power), M10 VSS32 (power), M11 VDD_CORE15 (power), M12 VSS33 (power), M13 VDD_CORE16 (power), N7 VSS34 (power), N8 VDD_CORE17 (power), N9 VDD_CORE18 (power), N10 VSS35 (power), N11 VSS36 (power), N12 VDD_CORE19 (power), N13 VDD_CORE20 (power), R10 VDDS_PLL_CORE_LCD (power), V1 VSS37 (power), V18 VSS38 (power)
part A text: AM335x Sitara - BGA-324; 1.8V; 3.3V
part B text: AM335x Sitara - BGA-324
part C text: AM335x Sitara - BGA-324
part D text: AM335x Sitara - BGA-324; DDR section
part E text: AM335x Sitara - BGA-324

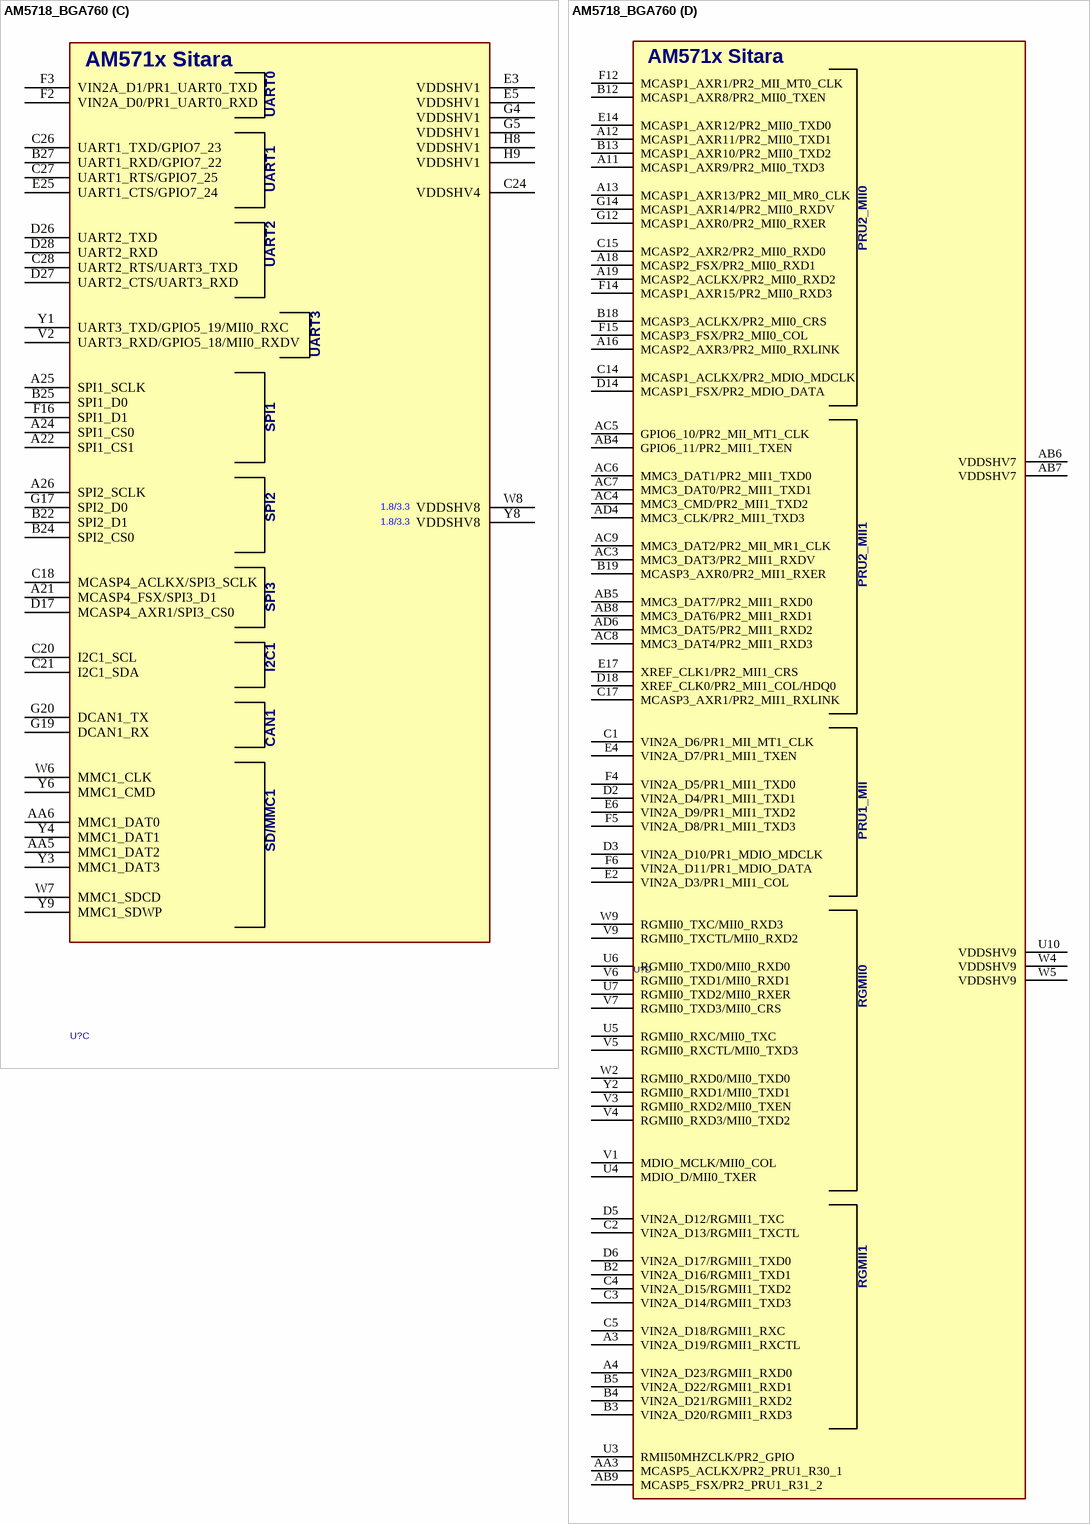
[diagram p5: symbol AM5718_BGA760]

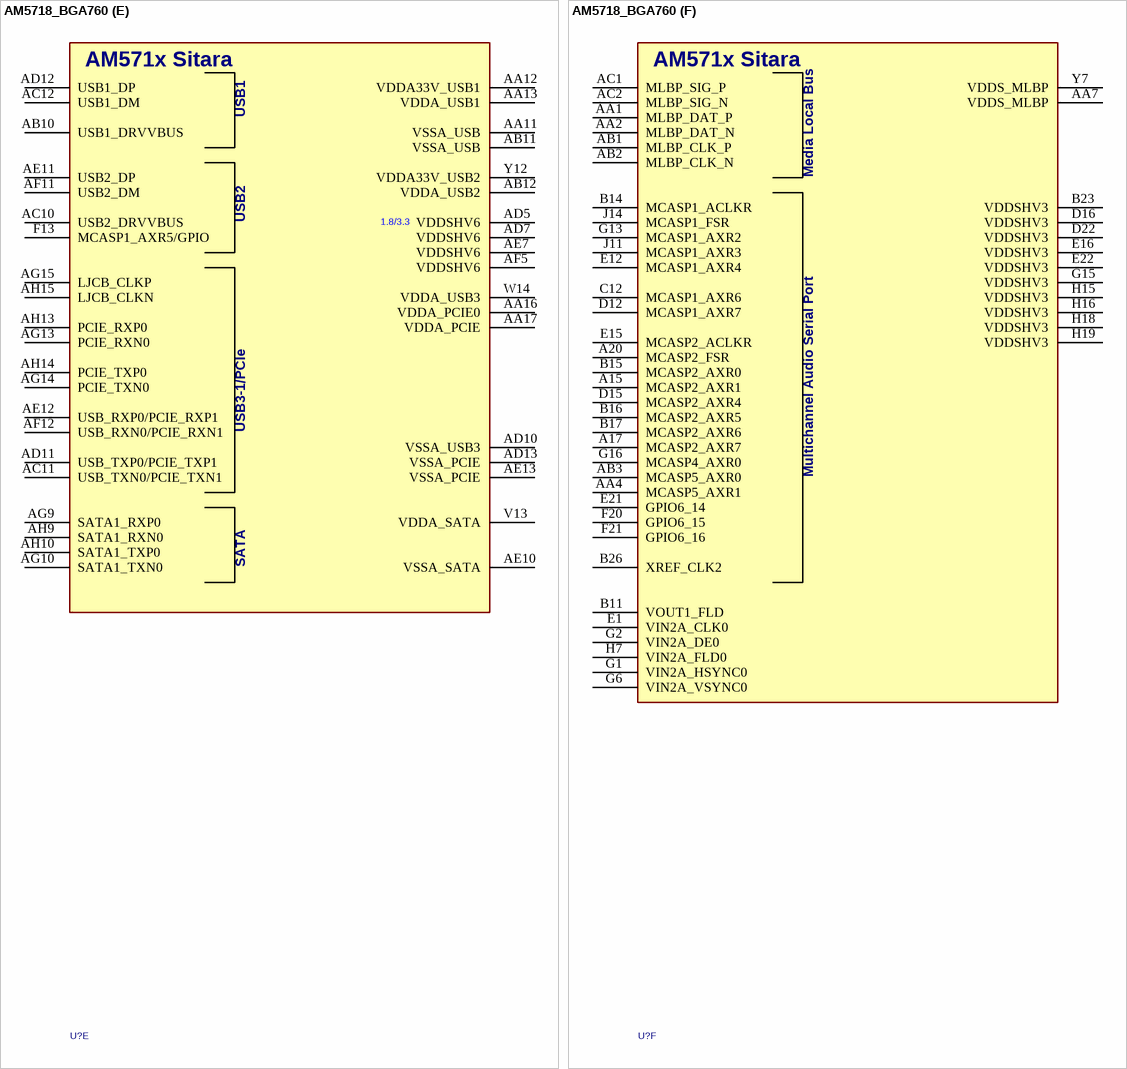
[diagram p6: symbol AM5718_BGA760]

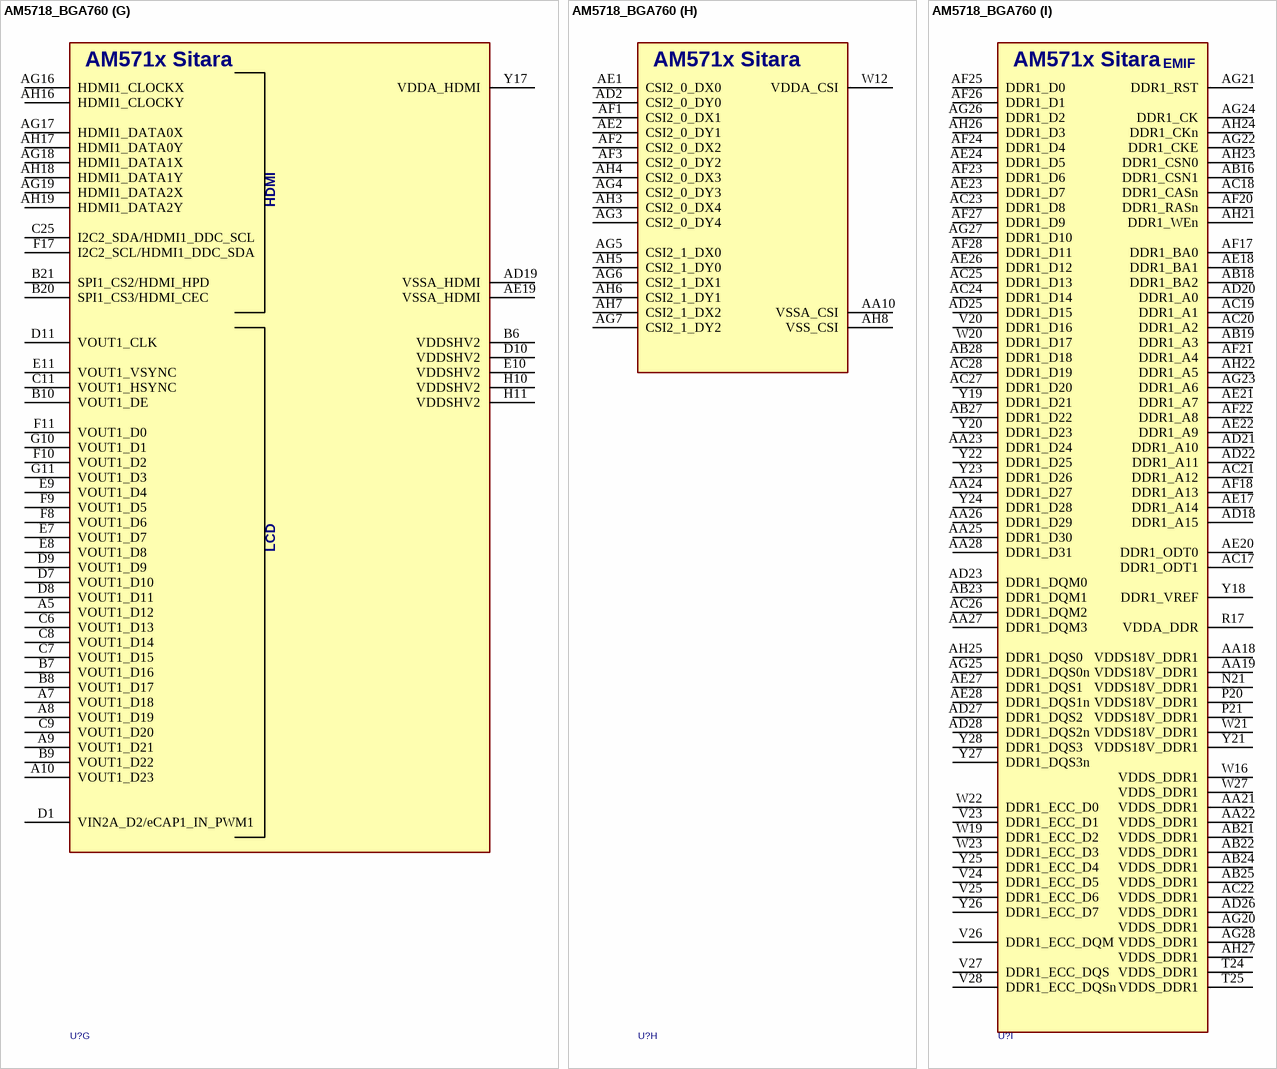
[diagram p7: symbol AM5718_BGA760]

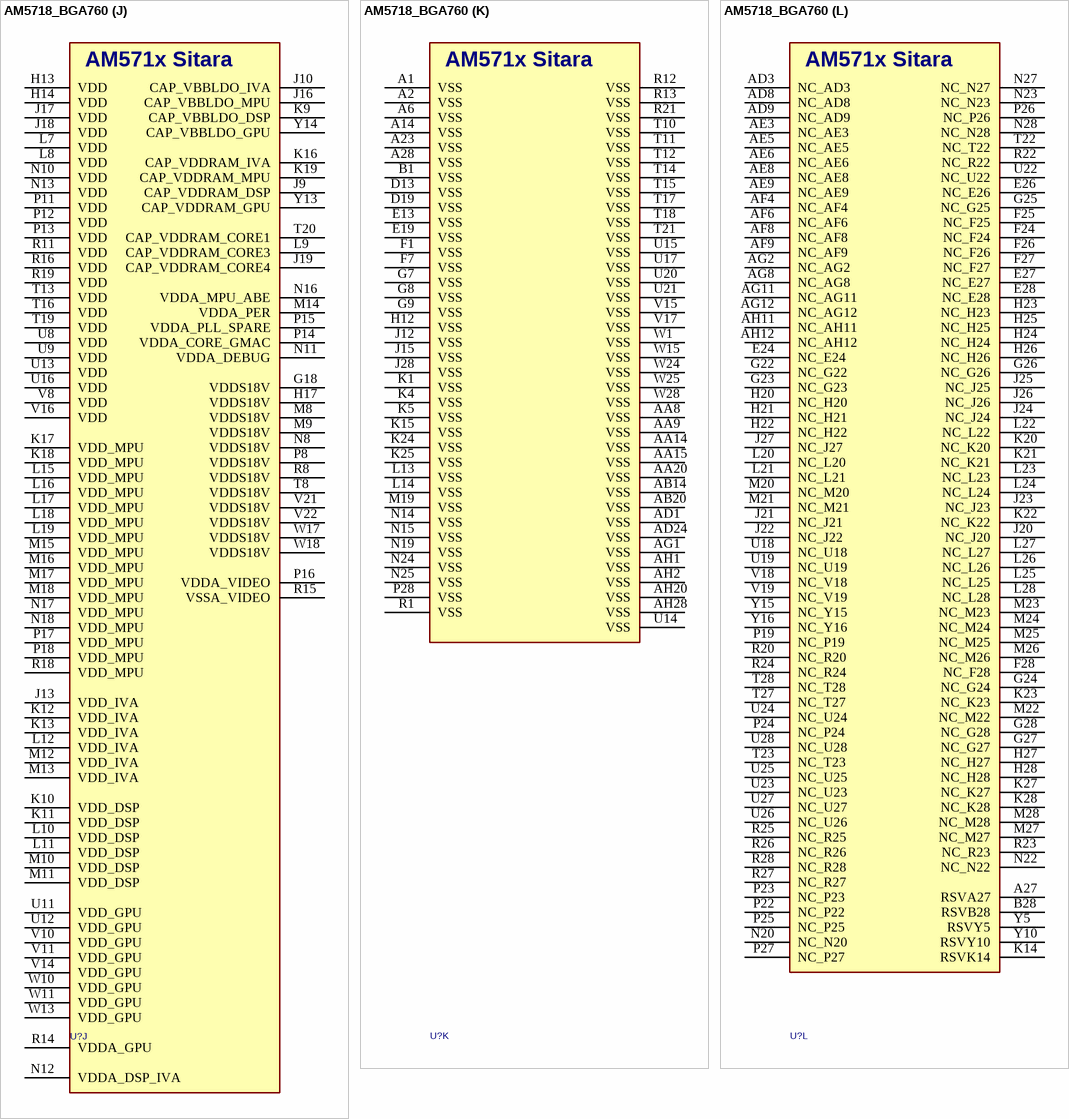
[diagram p8: symbol AM5718_BGA760]

## AM5718_BGA760
designator U?, comment AM5718  (value not drawn)
IC, Cortex A15 with C66X SOC; MANF: Texas Instruments; MANF_P#: AM5718AABCXEA; PARAM: Cortex A15 with C66X SOC; VALUE: AM5718
footprint BGA80_760_S23 (BGA, ABC, 760-ball, 0.8mm pitch 23x23x3mm)
part A pins: AB13 VDDA_RTC (power), AB15 VDD_RTC (power), AB17 RTC_PORZ, AC13 XO_OSC1, AC14 VSSA_OSC1 (power), AC15 XI_OSC1, AC16 WAKEUP3, AD14 RTC_OSC_XO, AD15 XO_OSC0, AD16 VDDA_OSC (power), AD17 WAKEUP0, AE14 RTC_OSC_XI, AE15 XI_OSC0, AE16 VDDA_OSC (power), AF14 RTC_ISO, AF15 VSSA_OSC0 (power), D20 TRSTn, D21 NMI_DSP, D23 TDI, D24 EMU1, E18 RTCK, E20 TCK, E23 RESETn, F18 TMS, F19 TDO, F22 PORZ, F23 RSTOUTn, G21 EMU0, V12 VDDSHV5 (power), Y11 ON_OFF
part B pins: C23 XREF_CLK3/CLKOUT3/HDQ0, H1 GPMC_AD12, H2 GPMC_AD14, H3 GPMC_AD15, H4 GPMC_A26/MMC2_DAT2, H5 GPMC_A27/MMC2_DAT3, H6 GPMC_CS1/MMC2_CMD, J1 GPMC_AD10, J2 GPMC_AD11, J3 GPMC_AD13, J4 GPMC_A24/MMC2_DAT0, J5 GPMC_A21/MMC2_DAT6, J6 GPMC_A25/MMC2_DAT1, J7 GPMC_A23/MMC2_CLK, J8 VDDSHV11 (power), K2 GPMC_AD9, K6 GPMC_A22/MMC2_DAT7, K7 GPMC_A19/MMC2_DAT4, K8 VDDSHV11 (power), L1 GPMC_AD8, L2 GPMC_AD7/GPIO, L3 GPMC_AD6/GPIO, L4 GPMC_AD5/GPIO, L5 GPMC_AD2/GPIO, L6 GPMC_AD4/GPIO, M1 GPMC_AD3/GPIO, M2 GPMC_AD1/GPIO, M3 GPMC_WEN, M4 GPMC_BEN1, M5 GPMC_OEN_REN, M6 GPMC_AD0/GPIO, M7 GPMC_A20/MMC2_DAT5, N1 GPMC_ADVN_ALE, N2 GPMC_WAIT0, N4 VDDSHV10 (power), N5 VDDSHV10 (power), N6 GPMC_BEN0, N7 GPMC_A8/VIN1B_HSYNC1, N9 GPMC_A10/VIN1B_CLK1, P1 GPMC_CS3/GPIO, P2 GPMC_CS2/QSPI1_CS0, P3 GPMC_A17/QSPI1_D1, P4 GPMC_A12/VIN1B_FLD1, P5 GPMC_A7/VIN1B_D7, P6 GPMC_A4/VIN1B_D4, P7 GPMC_CLK, P9 GPMC_A11/VIN1B_DE1, P10 VDDSHV10 (power), R2 GPMC_A18/QSPI1_SCLK, R3 GPMC_A13/QSPI_RTCLK, R4 GPMC_A9/VIN1B_VSYNC1, R5 GPMC_A6/VIN1B_D6, R6 GPMC_A0/VIN1B_D0, R7 VDDSHV10 (power), R9 GPMC_A5/VIN1B_D5, R10 VDDSHV10 (power), T1 GPMC_CS0, T2 GPMC_A14/QSPI_D3, T4 VDDSHV10 (power), T5 VDDSHV10 (power), T6 GPMC_A2/VIN1B_D2, T7 GPMC_A3/VIN1B_D3, T9 GPMC_A1/VIN1B_D1, U1 GPMC_A16/QSPI1_D0, U2 GPMC_A15/QSPI_D2
part C pins: A21 MCASP4_FSX/SPI3_D1, A22 SPI1_CS1, A24 SPI1_CS0, A25 SPI1_SCLK, A26 SPI2_SCLK, AA5 MMC1_DAT2, AA6 MMC1_DAT0, B22 SPI2_D1, B24 SPI2_CS0, B25 SPI1_D0, B27 UART1_RXD/GPIO7_22, C18 MCASP4_ACLKX/SPI3_SCLK, C20 I2C1_SCL, C21 I2C1_SDA, C24 VDDSHV4 (power), C26 UART1_TXD/GPIO7_23, C27 UART1_RTS/GPIO7_25, C28 UART2_RTS/UART3_TXD, D17 MCASP4_AXR1/SPI3_CS0, D26 UART2_TXD, D27 UART2_CTS/UART3_RXD, D28 UART2_RXD, E3 VDDSHV1 (power), E5 VDDSHV1 (power), E25 UART1_CTS/GPIO7_24, F2 VIN2A_D0/PR1_UART0_RXD, F3 VIN2A_D1/PR1_UART0_TXD, F16 SPI1_D1, G4 VDDSHV1 (power), G5 VDDSHV1 (power), G17 SPI2_D0, G19 DCAN1_RX, G20 DCAN1_TX, H8 VDDSHV1 (power), H9 VDDSHV1 (power), V2 UART3_RXD/GPIO5_18/MII0_RXDV, W6 MMC1_CLK, W7 MMC1_SDCD, W8 VDDSHV8 (power), Y1 UART3_TXD/GPIO5_19/MII0_RXC, Y3 MMC1_DAT3, Y4 MMC1_DAT1, Y6 MMC1_CMD, Y8 VDDSHV8 (power), Y9 MMC1_SDWP
part D pins: A3 VIN2A_D19/RGMII1_RXCTL, A4 VIN2A_D23/RGMII1_RXD0, A11 MCASP1_AXR9/PR2_MII0_TXD3, A12 MCASP1_AXR11/PR2_MII0_TXD1, A13 MCASP1_AXR13/PR2_MII_MR0_CLK, A16 MCASP2_AXR3/PR2_MII0_RXLINK, A18 MCASP2_FSX/PR2_MII0_RXD1, A19 MCASP2_ACLKX/PR2_MII0_RXD2, AA3 MCASP5_ACLKX/PR2_PRU1_R30_1, AB4 GPIO6_11/PR2_MII1_TXEN, AB5 MMC3_DAT7/PR2_MII1_RXD0, AB6 VDDSHV7 (power), AB7 VDDSHV7 (power), AB8 MMC3_DAT6/PR2_MII1_RXD1, AB9 MCASP5_FSX/PR2_PRU1_R31_2, AC3 MMC3_DAT3/PR2_MII1_RXDV, AC4 MMC3_CMD/PR2_MII1_TXD2, AC5 GPIO6_10/PR2_MII_MT1_CLK, AC6 MMC3_DAT1/PR2_MII1_TXD0, AC7 MMC3_DAT0/PR2_MII1_TXD1, AC8 MMC3_DAT4/PR2_MII1_RXD3, AC9 MMC3_DAT2/PR2_MII_MR1_CLK, AD4 MMC3_CLK/PR2_MII1_TXD3, AD6 MMC3_DAT5/PR2_MII1_RXD2, B2 VIN2A_D16/RGMII1_TXD1, B3 VIN2A_D20/RGMII1_RXD3, B4 VIN2A_D21/RGMII1_RXD2, B5 VIN2A_D22/RGMII1_RXD1, B12 MCASP1_AXR8/PR2_MII0_TXEN, B13 MCASP1_AXR10/PR2_MII0_TXD2, B18 MCASP3_ACLKX/PR2_MII0_CRS, B19 MCASP3_AXR0/PR2_MII1_RXER, C1 VIN2A_D6/PR1_MII_MT1_CLK, C2 VIN2A_D13/RGMII1_TXCTL, C3 VIN2A_D14/RGMII1_TXD3, C4 VIN2A_D15/RGMII1_TXD2, C5 VIN2A_D18/RGMII1_RXC, C14 MCASP1_ACLKX/PR2_MDIO_MDCLK, C15 MCASP2_AXR2/PR2_MII0_RXD0, C17 MCASP3_AXR1/PR2_MII1_RXLINK, D2 VIN2A_D4/PR1_MII1_TXD1, D3 VIN2A_D10/PR1_MDIO_MDCLK, D5 VIN2A_D12/RGMII1_TXC, D6 VIN2A_D17/RGMII1_TXD0, D14 MCASP1_FSX/PR2_MDIO_DATA, D18 XREF_CLK0/PR2_MII1_COL/HDQ0, E2 VIN2A_D3/PR1_MII1_COL, E4 VIN2A_D7/PR1_MII1_TXEN, E6 VIN2A_D9/PR1_MII1_TXD2, E14 MCASP1_AXR12/PR2_MII0_TXD0, E17 XREF_CLK1/PR2_MII1_CRS, F4 VIN2A_D5/PR1_MII1_TXD0, F5 VIN2A_D8/PR1_MII1_TXD3, F6 VIN2A_D11/PR1_MDIO_DATA, F12 MCASP1_AXR1/PR2_MII_MT0_CLK, F14 MCASP1_AXR15/PR2_MII0_RXD3, F15 MCASP3_FSX/PR2_MII0_COL, G12 MCASP1_AXR0/PR2_MII0_RXER, G14 MCASP1_AXR14/PR2_MII0_RXDV, U3 RMII50MHZCLK/PR2_GPIO, U4 MDIO_D/MII0_TXER, U5 RGMII0_RXC/MII0_TXC, U6 RGMII0_TXD0/MII0_RXD0, U7 RGMII0_TXD2/MII0_RXER, U10 VDDSHV9 (power), V1 MDIO_MCLK/MII0_COL, V3 RGMII0_RXD2/MII0_TXEN, V4 RGMII0_RXD3/MII0_TXD2, V5 RGMII0_RXCTL/MII0_TXD3, V6 RGMII0_TXD1/MII0_RXD1, V7 RGMII0_TXD3/MII0_CRS, V9 RGMII0_TXCTL/MII0_RXD2, W2 RGMII0_RXD0/MII0_TXD0, W4 VDDSHV9 (power), W5 VDDSHV9 (power), W9 RGMII0_TXC/MII0_RXD3, Y2 RGMII0_RXD1/MII0_TXD1
part E pins: AA11 VSSA_USB (power), AA12 VDDA33V_USB1 (power), AA13 VDDA_USB1 (power), AA16 VDDA_PCIE0 (power), AA17 VDDA_PCIE (power), AB10 USB1_DRVVBUS, AB11 VSSA_USB (power), AB12 VDDA_USB2 (power), AC10 USB2_DRVVBUS, AC11 USB_TXN0/PCIE_TXN1, AC12 USB1_DM, AD5 VDDSHV6 (power), AD7 VDDSHV6 (power), AD10 VSSA_USB3 (power), AD11 USB_TXP0/PCIE_TXP1, AD12 USB1_DP, AD13 VSSA_PCIE (power), AE7 VDDSHV6 (power), AE10 VSSA_SATA (power), AE11 USB2_DP, AE12 USB_RXP0/PCIE_RXP1, AE13 VSSA_PCIE (power), AF5 VDDSHV6 (power), AF11 USB2_DM, AF12 USB_RXN0/PCIE_RXN1, AG9 SATA1_RXP0, AG10 SATA1_TXN0, AG13 PCIE_RXN0, AG14 PCIE_TXN0, AG15 LJCB_CLKP, AH9 SATA1_RXN0, AH10 SATA1_TXP0, AH13 PCIE_RXP0, AH14 PCIE_TXP0, AH15 LJCB_CLKN, F13 MCASP1_AXR5/GPIO, V13 VDDA_SATA (power), W14 VDDA_USB3 (power), Y12 VDDA33V_USB2 (power)
part F pins: A15 MCASP2_AXR1, A17 MCASP2_AXR7, A20 MCASP2_FSR, AA1 MLBP_DAT_P, AA2 MLBP_DAT_N, AA4 MCASP5_AXR1, AA7 VDDS_MLBP (power), AB1 MLBP_CLK_P, AB2 MLBP_CLK_N, AB3 MCASP5_AXR0, AC1 MLBP_SIG_P, AC2 MLBP_SIG_N, B11 VOUT1_FLD, B14 MCASP1_ACLKR, B15 MCASP2_AXR0, B16 MCASP2_AXR5, B17 MCASP2_AXR6, B23 VDDSHV3 (power), B26 XREF_CLK2, C12 MCASP1_AXR6, D12 MCASP1_AXR7, D15 MCASP2_AXR4, D16 VDDSHV3 (power), D22 VDDSHV3 (power), E1 VIN2A_CLK0, E12 MCASP1_AXR4, E15 MCASP2_ACLKR, E16 VDDSHV3 (power), E21 GPIO6_14, E22 VDDSHV3 (power), F20 GPIO6_15, F21 GPIO6_16, G1 VIN2A_HSYNC0, G2 VIN2A_DE0, G6 VIN2A_VSYNC0, G13 MCASP1_AXR2, G15 VDDSHV3 (power), G16 MCASP4_AXR0, H7 VIN2A_FLD0, H15 VDDSHV3 (power), H16 VDDSHV3 (power), H18 VDDSHV3 (power), H19 VDDSHV3 (power), J11 MCASP1_AXR3, J14 MCASP1_FSR, Y7 VDDS_MLBP (power)
part G pins: A5 VOUT1_D12, A7 VOUT1_D18, A8 VOUT1_D19, A9 VOUT1_D21, A10 VOUT1_D23, AD19 VSSA_HDMI (power), AE19 VSSA_HDMI (power), AG16 HDMI1_CLOCKX, AG17 HDMI1_DATA0X, AG18 HDMI1_DATA1X, AG19 HDMI1_DATA2X, AH16 HDMI1_CLOCKY, AH17 HDMI1_DATA0Y, AH18 HDMI1_DATA1Y, AH19 HDMI1_DATA2Y, B6 VDDSHV2 (power), B7 VOUT1_D16, B8 VOUT1_D17, B9 VOUT1_D22, B10 VOUT1_DE, B20 SPI1_CS3/HDMI_CEC, B21 SPI1_CS2/HDMI_HPD, C6 VOUT1_D13, C7 VOUT1_D15, C8 VOUT1_D14, C9 VOUT1_D20, C11 VOUT1_HSYNC, C25 I2C2_SDA/HDMI1_DDC_SCL, D1 VIN2A_D2/eCAP1_IN_PWM1, D7 VOUT1_D10, D8 VOUT1_D11, D9 VOUT1_D9, D10 VDDSHV2 (power), D11 VOUT1_CLK, E7 VOUT1_D7, E8 VOUT1_D8, E9 VOUT1_D4, E10 VDDSHV2 (power), E11 VOUT1_VSYNC, F8 VOUT1_D6, F9 VOUT1_D5, F10 VOUT1_D2, F11 VOUT1_D0, F17 I2C2_SCL/HDMI1_DDC_SDA, G10 VOUT1_D1, G11 VOUT1_D3, H10 VDDSHV2 (power), H11 VDDSHV2 (power), Y17 VDDA_HDMI (power)
part H pins: AA10 VSSA_CSI (power), AD2 CSI2_0_DY0, AE1 CSI2_0_DX0, AE2 CSI2_0_DY1, AF1 CSI2_0_DX1, AF2 CSI2_0_DX2, AF3 CSI2_0_DY2, AG3 CSI2_0_DY4, AG4 CSI2_0_DY3, AG5 CSI2_1_DX0, AG6 CSI2_1_DX1, AG7 CSI2_1_DY2, AH3 CSI2_0_DX4, AH4 CSI2_0_DX3, AH5 CSI2_1_DY0, AH6 CSI2_1_DY1, AH7 CSI2_1_DX2, AH8 VSS_CSI (power), W12 VDDA_CSI (power)
part I pins: AA18 VDDS18V_DDR1 (power), AA19 VDDS18V_DDR1 (power), AA21 VDDS_DDR1 (power), AA22 VDDS_DDR1 (power), AA23 DDR1_D24, AA24 DDR1_D27, AA25 DDR1_D30, AA26 DDR1_D29, AA27 DDR1_DQM3, AA28 DDR1_D31, AB16 DDR1_CSN1, AB18 DDR1_BA2, AB19 DDR1_A3, AB21 VDDS_DDR1 (power), AB22 VDDS_DDR1 (power), AB23 DDR1_DQM1, AB24 VDDS_DDR1 (power), AB25 VDDS_DDR1 (power), AB27 DDR1_D22, AB28 DDR1_D18, AC17 DDR1_ODT1, AC18 DDR1_CASn, AC19 DDR1_A1, AC20 DDR1_A2, AC21 DDR1_A12, AC22 VDDS_DDR1 (power), AC23 DDR1_D8, AC24 DDR1_D14, AC25 DDR1_D13, AC26 DDR1_DQM2, AC27 DDR1_D20, AC28 DDR1_D19, AD18 DDR1_A15, AD20 DDR1_A0, AD21 DDR1_A10, AD22 DDR1_A11, AD23 DDR1_DQM0, AD25 DDR1_D15, AD26 VDDS_DDR1 (power), AD27 DDR1_DQS2, AD28 DDR1_DQS2n, AE17 DDR1_A14, AE18 DDR1_BA1, AE20 DDR1_ODT0, AE21 DDR1_A7, AE22 DDR1_A9, AE23 DDR1_D7, AE24 DDR1_D5, AE26 DDR1_D12, AE27 DDR1_DQS1, AE28 DDR1_DQS1n, AF17 DDR1_BA0, AF18 DDR1_A13, AF20 DDR1_RASn, AF21 DDR1_A4, AF22 DDR1_A8, AF23 DDR1_D6, AF24 DDR1_D4, AF25 DDR1_D0, AF26 DDR1_D1, AF27 DDR1_D9, AF28 DDR1_D11, AG20 VDDS_DDR1 (power), AG21 DDR1_RST, AG22 DDR1_CKE, AG23 DDR1_A6, AG24 DDR1_CK, AG25 DDR1_DQS0n, AG26 DDR1_D2, AG27 DDR1_D10, AG28 VDDS_DDR1 (power), AH21 DDR1_WEn, AH22 DDR1_A5, AH23 DDR1_CSN0, AH24 DDR1_CKn, AH25 DDR1_DQS0, AH26 DDR1_D3, AH27 VDDS_DDR1 (power), N21 VDDS18V_DDR1, P20 VDDS18V_DDR1 (power), P21 VDDS18V_DDR1 (power), R17 VDDA_DDR (power), T24 VDDS_DDR1 (power), T25 VDDS_DDR1 (power), V20 DDR1_D16, V23 DDR1_ECC_D1, V24 DDR1_ECC_D5, V25 DDR1_ECC_D6, V26 DDR1_ECC_DQM, V27 DDR1_ECC_DQS, V28 DDR1_ECC_DQSn, W16 VDDS_DDR1 (power), W19 DDR1_ECC_D2, W20 DDR1_D17, W21 VDDS18V_DDR1 (power), W22 DDR1_ECC_D0, W23 DDR1_ECC_D3, W27 VDDS_DDR1 (power), Y18 DDR1_VREF, Y19 DDR1_D21, Y20 DDR1_D23, Y21 VDDS18V_DDR1 (power), Y22 DDR1_D25, Y23 DDR1_D26, Y24 DDR1_D28, Y25 DDR1_ECC_D4, Y26 DDR1_ECC_D7, Y27 DDR1_DQS3n, Y28 DDR1_DQS3
part J pins: G18 VDDS18V (power), H13 VDD (power), H14 VDD (power), H17 VDDS18V (power), J9 CAP_VDDRAM_DSP (power), J10 CAP_VBBLDO_IVA (power), J13 VDD_IVA (power), J16 CAP_VBBLDO_MPU, J17 VDD (power), J18 VDD (power), J19 CAP_VDDRAM_CORE4 (power), K9 CAP_VBBLDO_DSP, K10 VDD_DSP (power), K11 VDD_DSP (power), K12 VDD_IVA (power), K13 VDD_IVA (power), K16 CAP_VDDRAM_IVA (power), K17 VDD_MPU (power), K18 VDD_MPU (power), K19 CAP_VDDRAM_MPU, L7 VDD (power), L8 VDD (power), L9 CAP_VDDRAM_CORE3, L10 VDD_DSP (power), L11 VDD_DSP (power), L12 VDD_IVA (power), L15 VDD_MPU (power), L16 VDD_MPU (power), L17 VDD_MPU (power), L18 VDD_MPU (power), L19 VDD_MPU (power), M8 VDDS18V (power), M9 VDDS18V (power), M10 VDD_DSP (power), M11 VDD_DSP (power), M12 VDD_IVA (power), M13 VDD_IVA (power), M14 VDDA_PER (power), M15 VDD_MPU (power), M16 VDD_MPU (power), M17 VDD_MPU (power), M18 VDD_MPU (power), N8 VDDS18V (power), N10 VDD (power), N11 VDDA_DEBUG (power), N12 VDDA_DSP_IVA (power), N13 VDD (power), N16 VDDA_MPU_ABE (power), N17 VDD_MPU (power), N18 VDD_MPU (power), P8 VDDS18V (power), P11 VDD (power), P12 VDD (power), P13 VDD (power), P14 VDDA_CORE_GMAC (power), P15 VDDA_PLL_SPARE (power), P16 VDDA_VIDEO (power), P17 VDD_MPU (power), P18 VDD_MPU (power), R8 VDDS18V (power), R11 VDD (power), R14 VDDA_GPU (power), R15 VSSA_VIDEO (power), R16 VDD (power), R18 VDD_MPU (power), R19 VDD (power), T8 VDDS18V (power), T13 VDD (power), T16 VDD (power), T19 VDD (power), T20 CAP_VDDRAM_CORE1 (power), U8 VDD (power), U9 VDD (power), U11 VDD_GPU (power), U12 VDD_GPU (power), U13 VDD (power), U16 VDD (power), V8 VDD (power), V10 VDD_GPU (power), V11 VDD_GPU (power), V14 VDD_GPU (power), V16 VDD (power), V21 VDDS18V (power), V22 VDDS18V (power), W10 VDD_GPU (power), W11 VDD_GPU (power), W13 VDD_GPU (power), W17 VDDS18V (power), W18 VDDS18V (power), Y13 CAP_VDDRAM_GPU, Y14 CAP_VBBLDO_GPU
part K pins: A1 VSS (power), A2 VSS (power), A6 VSS (power), A14 VSS (power), A23 VSS (power), A28 VSS (power), AA8 VSS (power), AA9 VSS (power), AA14 VSS (power), AA15 VSS (power), AA20 VSS (power), AB14 VSS (power), AB20 VSS (power), AD1 VSS (power), AD24 VSS (power), AG1 VSS (power), AH1 VSS (power), AH2 VSS (power), AH20 VSS (power), AH28 VSS (power), B1 VSS (power), D13 VSS (power), D19 VSS (power), E13 VSS (power), E19 VSS (power), F1 VSS (power), F7 VSS (power), G7 VSS (power), G8 VSS (power), G9 VSS (power), H12 VSS (power), J12 VSS (power), J15 VSS (power), J28 VSS (power), K1 VSS (power), K4 VSS (power), K5 VSS (power), K15 VSS (power), K24 VSS (power), K25 VSS (power), L13 VSS (power), L14 VSS (power), M19 VSS (power), N14 VSS (power), N15 VSS (power), N19 VSS (power), N24 VSS (power), N25 VSS (power), P28 VSS (power), R1 VSS (power), R12 VSS (power), R13 VSS (power), R21 VSS (power), T10 VSS (power), T11 VSS (power), T12 VSS (power), T14 VSS (power), T15 VSS (power), T17 VSS (power), T18 VSS (power), T21 VSS (power), U14 VSS (power), U15 VSS (power), U17 VSS (power), U20 VSS (power), U21 VSS (power), V15 VSS (power), V17 VSS (power), W1 VSS (power), W15 VSS (power), W24 VSS (power), W25 VSS (power), W28 VSS (power)
part L pins: A27 RSVA27, AD3 NC_AD3, AD8 NC_AD8, AD9 NC_AD9, AE3 NC_AE3, AE5 NC_AE5, AE6 NC_AE6, AE8 NC_AE8, AE9 NC_AE9, AF4 NC_AF4, AF6 NC_AF6, AF8 NC_AF8, AF9 NC_AF9, AG2 NC_AG2, AG8 NC_AG8, AG11 NC_AG11, AG12 NC_AG12, AH11 NC_AH11, AH12 NC_AH12, B28 RSVB28, E24 NC_E24, E26 NC_E26, E27 NC_E27, E28 NC_E28, F24 NC_F24, F25 NC_F25, F26 NC_F26, F27 NC_F27, F28 NC_F28, G22 NC_G22, G23 NC_G23, G24 NC_G24, G25 NC_G25, G26 NC_G26, G27 NC_G27, G28 NC_G28, H20 NC_H20, H21 NC_H21, H22 NC_H22, H23 NC_H23, H24 NC_H24, H25 NC_H25, H26 NC_H26, H27 NC_H27, H28 NC_H28, J20 NC_J20, J21 NC_J21, J22 NC_J22, J23 NC_J23, J24 NC_J24, J25 NC_J25, J26 NC_J26, J27 NC_J27, K14 RSVK14, K20 NC_K20, K21 NC_K21, K22 NC_K22, K23 NC_K23, K27 NC_K27, K28 NC_K28, L20 NC_L20, L21 NC_L21, L22 NC_L22, L23 NC_L23, L24 NC_L24, L25 NC_L25, L26 NC_L26, L27 NC_L27, L28 NC_L28, M20 NC_M20, M21 NC_M21, M22 NC_M22, M23 NC_M23, M24 NC_M24, M25 NC_M25, M26 NC_M26, M27 NC_M27, M28 NC_M28, N20 NC_N20, N22 NC_N22, N23 NC_N23, N27 NC_N27, N28 NC_N28, P19 NC_P19, P22 NC_P22, P23 NC_P23, P24 NC_P24, P25 NC_P25, P26 NC_P26, P27 NC_P27, R20 NC_R20, R22 NC_R22, R23 NC_R23, R24 NC_R24, R25 NC_R25, R26 NC_R26, R27 NC_R27, R28 NC_R28, T22 NC_T22, T23 NC_T23, T27 NC_T27, T28 NC_T28, U18 NC_U18, U19 NC_U19, U22 NC_U22, U23 NC_U23, U24 NC_U24, U25 NC_U25, U26 NC_U26, U27 NC_U27, U28 NC_U28, V18 NC_V18, V19 NC_V19, Y5 RSVY5, Y10 RSVY10, Y15 NC_Y15, Y16 NC_Y16
part A text: AM571x Sitara; 1.8/3.3; JTAG
part B text: AM571x Sitara; QSPI FLASH; EMMC NAND FLASH; CAMERA
part C text: AM571x Sitara; UART0; UART1; UART2; UART3; SPI1; 1.8/3.3; SPI2; SPI3; I2C1; CAN1; SD/MMC1
part D text: AM571x Sitara; PRU2_MII0; PRU2_MII1; PRU1_MII; RGMII0; RGMII1
part E text: AM571x Sitara; USB1; USB2; 1.8/3.3; USB3-1/PCIe; SATA
part F text: AM571x Sitara; Media Local Bus; Multichannel Audio Serial Port
part G text: AM571x Sitara; HDMI; LCD
part H text: AM571x Sitara
part I text: AM571x Sitara; EMIF
part J text: AM571x Sitara
part K text: AM571x Sitara
part L text: AM571x Sitara